# Altium integrated library rodgel.IntLib: 579 symbols (part 2 of 4)
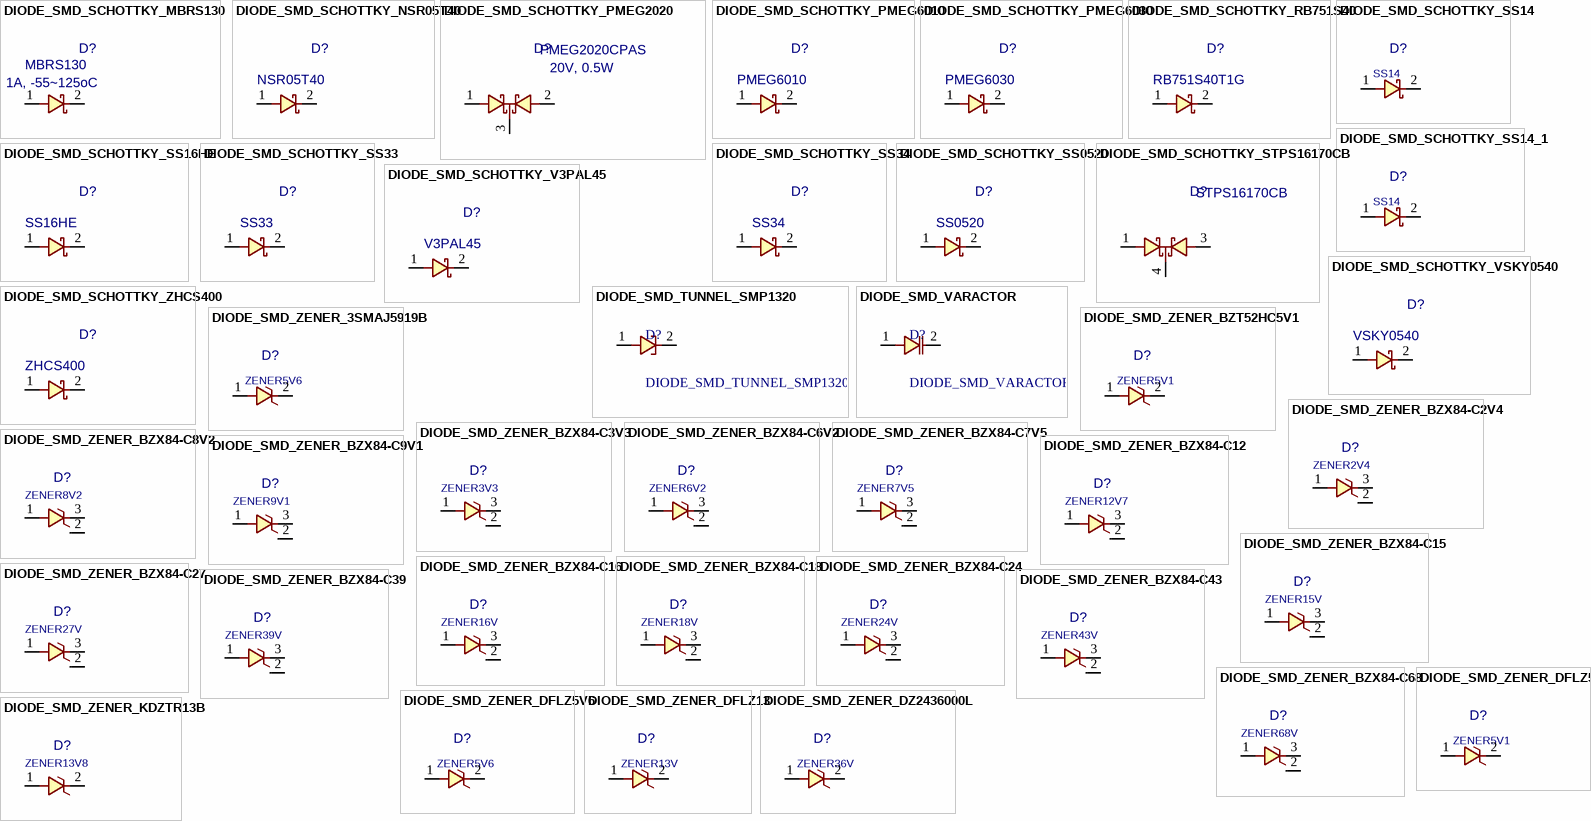
[diagram p18: symbols DIODE_SMD_SCHOTTKY_MBRS130 to DIODE_SMD_ZENER_KDZTR13B]

## DIODE_SMD_SCHOTTKY_ZHCS400
designator D?, comment ZHCS400
DIODE, SCHOTTKY, 40V, 0.4A; MANF: DIODES; MANF_P#: ZHCS400TA; DESC: DESCRIPTION; PARAM2: 0.4A, -55~150oC; ASSEMBLY: ASSEMBLY; PRICE: 0.4$; PARAM: 40V; VALUE: ZHCS400
footprint D_SOD323 (DIODE0805, SOD-323, SC-76, DL-35, 0805 similar size)
pins: 1, 2

## DIODE_SMD_TUNNEL_SMP1320
designator D?
DIODE, SMD, TUNNEL; MANF_P#: SMP1320-079LF; MANF: Skyworks
footprint D_SOD523 (SOD523 SC-79 Molded Diode, 2-Leads, 1.2x0.8mm)
pins: 1, 2

## DIODE_SMD_VARACTOR
designator D?
Variable Capacitance Diode
footprint D0805 (DIODE0805, SOD323 (PHILIPS), SC-76 (JEITA), DL-35)
pins: 1, 2

## DIODE_SMD_ZENER_3SMAJ5919B
designator D?, comment ZENER5V6
DIODE, ZENER, 3W, 5.6V; MANF: MCC; DESC: DESCRIPTION; PARAM2: 0.5W, 2Ohm, 67mA, -55~150oC; MANF_P#: 3SMAJ5919B-TP; ASSEMBLY: ASSEMBLY; PRICE: 0.5$; PARAM: 5.6V; VALUE: ZENER5V6
footprint D_SMA (SMA Molded Diode, 2-Leads, Body 4.3x2.7mm)
pins: 1, 2

## DIODE_SMD_ZENER_BZT52HC5V1
designator D?, comment ZENER5V1
DIODE, ZENER, 1W, 5.1V; MANF: Diodes; DESC: DESCRIPTION; PARAM2: 1W, 4Ohm, -55~150oC; MANF_P#: BZT52HC5V1WF-7; ASSEMBLY: ASSEMBLY; PRICE: 0.25$; PARAM: 5.1V; VALUE: ZENER5V1
footprint D_SOD123W (1206D, SOD123, miniMELF, DO-213AA, MLL34, 320X160D)
pins: 1, 2

## DIODE_SMD_ZENER_BZX84-C2V4
designator D?, comment ZENER2V4
DIODE, ZENER, 0.25W, 2.4V; MANF: NXP; DESC: DESCRIPTION; PARAM2: 2.4V, 0.9VF; PARAM: 0.25W, 10mA IF; MANF_P#: BZX84-C2V4; ASSEMBLY: ASSEMBLY; PRICE: PRICE; VALUE: ZENER2V4
footprint SOT23_3 (SOT-23, Micro3, MO-178, TO-236AB, MO-193C, SuperSOT3, SC-59, 1.9mm pitch 3X1.5mm body)
pins: 1, 2, 3

## DIODE_SMD_ZENER_BZX84-C3V3
designator D?, comment ZENER3V3
DIODE, ZENER, 0.25W, 3.3V; MANF: NXP; DESC: DESCRIPTION; PARAM2: 3.3V, 0.9VF; PARAM: 0.25W, 10mA IF; MANF_P#: BZX84-C3V3; ASSEMBLY: ASSEMBLY; PRICE: PRICE; VALUE: ZENER3V3
footprint SOT23_3 (SOT-23, Micro3, MO-178, TO-236AB, MO-193C, SuperSOT3, SC-59, 1.9mm pitch 3X1.5mm body)
pins: 1, 2, 3

## DIODE_SMD_ZENER_BZX84-C6V2
designator D?, comment ZENER6V2
DIODE, ZENER, 0.25W, 6.2V; MANF: NXP; DESC: DESCRIPTION; PARAM2: 6.2V, 0.9VF; PARAM: 0.25W, 10mA IF; MANF_P#: BZX84-C6V2; ASSEMBLY: ASSEMBLY; PRICE: PRICE; VALUE: ZENER6V2
footprint SOT23_3 (SOT-23, Micro3, MO-178, TO-236AB, MO-193C, SuperSOT3, SC-59, 1.9mm pitch 3X1.5mm body)
pins: 1, 2, 3

## DIODE_SMD_ZENER_BZX84-C7V5
designator D?, comment ZENER7V5
DIODE, ZENER, 0.25W, 7.5V; MANF: NXP; DESC: DESCRIPTION; PARAM2: 7.5V, 0.9VF; PARAM: 0.25W, 10mA IF; MANF_P#: BZX84-C7V5; ASSEMBLY: ASSEMBLY; PRICE: PRICE; VALUE: ZENER7V5
footprint SOT23_3 (SOT-23, Micro3, MO-178, TO-236AB, MO-193C, SuperSOT3, SC-59, 1.9mm pitch 3X1.5mm body)
pins: 1, 2, 3

## DIODE_SMD_ZENER_BZX84-C8V2
designator D?, comment ZENER8V2
DIODE, ZENER, 0.25W, 8.2V; MANF: NXP; DESC: DESCRIPTION; PARAM2: 8.2V, 0.9VF; PARAM: 0.25W, 10mA IF; MANF_P#: BZX84-C8V2; ASSEMBLY: ASSEMBLY; PRICE: PRICE; VALUE: ZENER8V2
footprint SOT23_3 (SOT-23, Micro3, MO-178, TO-236AB, MO-193C, SuperSOT3, SC-59, 1.9mm pitch 3X1.5mm body)
pins: 1, 2, 3

## DIODE_SMD_ZENER_BZX84-C9V1
designator D?, comment ZENER9V1
DIODE, ZENER, 0.25W, 9.1V; MANF: NXP; DESC: DESCRIPTION; PARAM2: 9.1V, 0.9VF; PARAM: 0.25W, 10mA IF; MANF_P#: BZX84-C9V1; ASSEMBLY: ASSEMBLY; PRICE: PRICE; VALUE: ZENER9V1
footprint SOT23_3 (SOT-23, Micro3, MO-178, TO-236AB, MO-193C, SuperSOT3, SC-59, 1.9mm pitch 3X1.5mm body)
pins: 1, 2, 3

## DIODE_SMD_ZENER_BZX84-C12
designator D?, comment ZENER12V7
DIODE, ZENER, 0.25W, 12.7V; MANF: NXP; DESC: DESCRIPTION; PARAM2: 12.7V, 0.9VF; PARAM: 0.25W, 10mA IF; MANF_P#: BZX84-C12; ASSEMBLY: ASSEMBLY; PRICE: PRICE; VALUE: ZENER12V7
footprint SOT23_3 (SOT-23, Micro3, MO-178, TO-236AB, MO-193C, SuperSOT3, SC-59, 1.9mm pitch 3X1.5mm body)
pins: 1, 2, 3

## DIODE_SMD_ZENER_BZX84-C15
designator D?, comment ZENER15V
DIODE, ZENER, 0.25W, 15V; MANF: NXP; DESC: DESCRIPTION; PARAM2: 15V, 0.9VF; PARAM: 0.25W, 10mA IF; MANF_P#: BZX84-C15; ASSEMBLY: ASSEMBLY; PRICE: PRICE; VALUE: ZENER15V
footprint SOT23_3 (SOT-23, Micro3, MO-178, TO-236AB, MO-193C, SuperSOT3, SC-59, 1.9mm pitch 3X1.5mm body)
pins: 1, 2, 3

## DIODE_SMD_ZENER_BZX84-C16
designator D?, comment ZENER16V
DIODE, ZENER, 0.25W, 16V; MANF: NXP; DESC: DESCRIPTION; PARAM2: 16V, 0.9VF; PARAM: 0.25W, 10mA IF; MANF_P#: BZX84-C16; ASSEMBLY: ASSEMBLY; PRICE: PRICE; VALUE: ZENER16V
footprint SOT23_3 (SOT-23, Micro3, MO-178, TO-236AB, MO-193C, SuperSOT3, SC-59, 1.9mm pitch 3X1.5mm body)
pins: 1, 2, 3

## DIODE_SMD_ZENER_BZX84-C18
designator D?, comment ZENER18V
DIODE, ZENER, 0.25W, 18V; MANF: NXP; DESC: DESCRIPTION; PARAM2: 18V, 0.9VF; PARAM: 0.25W, 10mA IF; MANF_P#: BZX84-C18; ASSEMBLY: ASSEMBLY; PRICE: PRICE; VALUE: ZENER18V
footprint SOT23_3 (SOT-23, Micro3, MO-178, TO-236AB, MO-193C, SuperSOT3, SC-59, 1.9mm pitch 3X1.5mm body)
pins: 1, 2, 3

## DIODE_SMD_ZENER_BZX84-C24
designator D?, comment ZENER24V
DIODE, ZENER, 0.25W, 24V; MANF: NXP; DESC: DESCRIPTION; PARAM2: 24V, 0.9VF; PARAM: 0.25W, 10mA IF; MANF_P#: BZX84-C24; ASSEMBLY: ASSEMBLY; PRICE: PRICE; VALUE: ZENER24V
footprint SOT23_3 (SOT-23, Micro3, MO-178, TO-236AB, MO-193C, SuperSOT3, SC-59, 1.9mm pitch 3X1.5mm body)
pins: 1, 2, 3

## DIODE_SMD_ZENER_BZX84-C27
designator D?, comment ZENER27V
DIODE, ZENER, 0.25W, 27V; MANF: NXP; DESC: DESCRIPTION; PARAM2: 27V, 0.9VF; PARAM: 0.25W, 10mA IF; MANF_P#: BZX84-C27; ASSEMBLY: ASSEMBLY; PRICE: PRICE; VALUE: ZENER27V
footprint SOT23_3 (SOT-23, Micro3, MO-178, TO-236AB, MO-193C, SuperSOT3, SC-59, 1.9mm pitch 3X1.5mm body)
pins: 1, 2, 3

## DIODE_SMD_ZENER_BZX84-C39
designator D?, comment ZENER39V
DIODE, ZENER, 0.25W, 39V; MANF: NXP; DESC: DESCRIPTION; PARAM2: 39V, 0.9VF; PARAM: 0.25W, 10mA IF; MANF_P#: BZX84-C39; ASSEMBLY: ASSEMBLY; PRICE: PRICE; VALUE: ZENER39V
footprint SOT23_3 (SOT-23, Micro3, MO-178, TO-236AB, MO-193C, SuperSOT3, SC-59, 1.9mm pitch 3X1.5mm body)
pins: 1, 2, 3

## DIODE_SMD_ZENER_BZX84-C43
designator D?, comment ZENER43V
DIODE, ZENER, 0.25W, 43V; MANF: NXP; DESC: DESCRIPTION; PARAM2: 43V, 0.9VF; PARAM: 0.25W, 10mA IF; MANF_P#: BZX84-C43; ASSEMBLY: ASSEMBLY; PRICE: PRICE; VALUE: ZENER43V
footprint SOT23_3 (SOT-23, Micro3, MO-178, TO-236AB, MO-193C, SuperSOT3, SC-59, 1.9mm pitch 3X1.5mm body)
pins: 1, 2, 3

## DIODE_SMD_ZENER_BZX84-C68
designator D?, comment ZENER68V
DIODE, ZENER, 0.25W, 68V; MANF: NXP; DESC: DESCRIPTION; PARAM2: 68V, 0.9VF; PARAM: 0.25W, 10mA IF; MANF_P#: BZX84-C68; ASSEMBLY: ASSEMBLY; PRICE: PRICE; VALUE: ZENER68V
footprint SOT23_3 (SOT-23, Micro3, MO-178, TO-236AB, MO-193C, SuperSOT3, SC-59, 1.9mm pitch 3X1.5mm body)
pins: 1, 2, 3

## DIODE_SMD_ZENER_DFLZ5V1
designator D?, comment ZENER5V1
DIODE, ZENER, 1W, 5.1V; MANF: Diodes; DESC: DESCRIPTION; PARAM2: 1W, 4Ohm, -55~150oC; MANF_P#: DFLZ5V1-7; ASSEMBLY: ASSEMBLY; PRICE: 0.5$; PARAM: 5.1V; VALUE: ZENER5V1
footprint D_SOD123W (1206D, SOD123, miniMELF, DO-213AA, MLL34, 320X160D)
pins: 1, 2

## DIODE_SMD_ZENER_DFLZ5V6
designator D?, comment ZENER5V6
DIODE, ZENER, 1W, 5.1V; MANF: Diodes; DESC: DESCRIPTION; PARAM2: 1W, 4Ohm, -55~150oC; PARAM: 5.6V; MANF_P#: DFLZ5V6-7; ASSEMBLY: ASSEMBLY; PRICE: 0.5$; VALUE: ZENER5V6
footprint D_SOD123W (1206D, SOD123, miniMELF, DO-213AA, MLL34, 320X160D)
pins: 1, 2

## DIODE_SMD_ZENER_DFLZ13
designator D?, comment ZENER13V
DIODE, ZENER, 1W, 13V; MANF: Diodes; DESC: DESCRIPTION; PARAM2: 1W, 10Ohm, -55~150oC; MANF_P#: DFLZ13-7, DFLZ13Q-7; ASSEMBLY: ASSEMBLY; PRICE: 0.5$; PARAM: 13V; VALUE: ZENER13V
footprint D_SOD123W (1206D, SOD123, miniMELF, DO-213AA, MLL34, 320X160D)
pins: 1, 2

## DIODE_SMD_ZENER_DZ2436000L
designator D?, comment ZENER36V
DIODE, ZENER, 2W, 36V; MANF: Panasonic; DESC: DESCRIPTION; PARAM: 2W, 38Ohm, -50~150°C; MANF_P#: DZ2436000L; ASSEMBLY: ASSEMBLY; PRICE: 0.6$; PARAM2: 36V; VALUE: ZENER36V
footprint D_SMA (SMA Molded Diode, 2-Leads, Body 4.3x2.7mm)
pins: 1, 2

## DIODE_SMD_ZENER_KDZTR13B
designator D?  value ZENER13V8  (hidden comment: DIODE_SMD_ZENER_KDZTR13B)
DIODE, ZENER, 1W, 13.8V; MANF: ROHM; DESC: DESCRIPTION; PARAM2: 1W; ASSEMBLY: ASSEMBLY; PRICE: PRICE; PARAM: 13.8V
footprint D1206 (SOD123, miniMELF, DO-213AA, MLL34, 320X160D)
pins: 1, 2

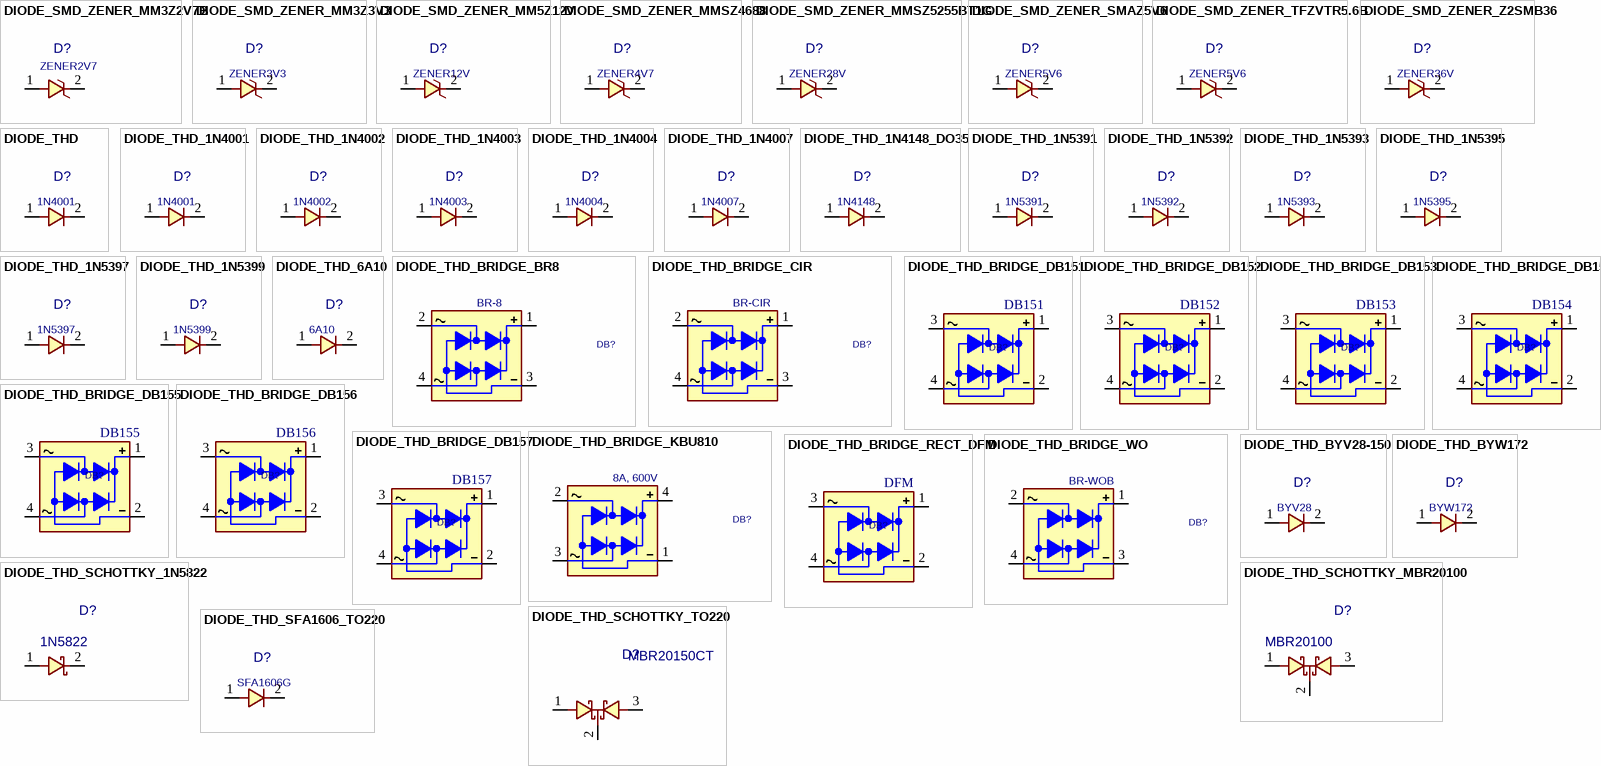
[diagram p5: symbols DIODE_SMD_ZENER_MM3Z2V7B to DIODE_THD_SFA1606_TO220]

## DIODE_SMD_ZENER_MM3Z2V7B
designator D?  value ZENER2V7  (hidden comment: DIODE_SMD_ZENER_MM3Z2V7B)
DIODE, ZENER, 0.2W, 2.7V; MANF: Fairchild; DESC: DESCRIPTION; PRICE: 0.036; MANF_P#: MM3Z2V7B; ASSEMBLY: ASSEMBLY; PARAM2: 0.2W; PARAM: 2.7V
footprint D0805 (DIODE0805, SOD323 (PHILIPS), SC-76 (JEITA), DL-35)
pins: 1, 2

## DIODE_SMD_ZENER_MM3Z3V3
designator D?, comment ZENER3V3
DIODE, ZENER, 0.2W, 3.3V; MANF: ON Semiconductor; DESC: DESCRIPTION; PARAM: 15V; MANF_P#: MM3Z3V3ST1G; ASSEMBLY: ASSEMBLY; PRICE: PRICE; PARAM2: 0.2W; VALUE: ZENER3V3
footprint D0805 (DIODE0805, SOD323 (PHILIPS), SC-76 (JEITA), DL-35)
pins: 1, 2

## DIODE_SMD_ZENER_MM5Z12V
designator D?, comment ZENER12V
DIODE, ZENER, 0.2W, 12V; MANF: Fairchild; DESC: DESCRIPTION; MANF_P#: MM5Z12V; ASSEMBLY: ASSEMBLY; PRICE: PRICE; PARAM2: 0.2W; PARAM: 12V; VALUE: ZENER12V
footprint D_SOD523 (SOD523 SC-79 Molded Diode, 2-Leads, 1.2x0.8mm)
pins: 1, 2

## DIODE_SMD_ZENER_MMSZ4688
designator D?, comment ZENER4V7
DIODE, ZENER, 0.5W, 4.7V; MANF: Fairchild; DESC: DESCRIPTION; MANF_P#: MMSZ4688; ASSEMBLY: ASSEMBLY; PRICE: PRICE; PARAM2: 0.5W; PARAM: 4.7V; VALUE: ZENER4V7
footprint D_SOD123W (1206D, SOD123, miniMELF, DO-213AA, MLL34, 320X160D)
pins: 1, 2

## DIODE_SMD_ZENER_MMSZ5255BT1G
designator D?, comment ZENER28V
DIODE, ZENER, 0.5W, 28V; MANF: ON Semiconductor; DESC: DESCRIPTION; MANF_P#: MMSZ5255BT1G; ASSEMBLY: ASSEMBLY; PRICE: PRICE; PARAM2: 0.5W; PARAM: 28V; VALUE: ZENER28V
footprint D_SOD123W (1206D, SOD123, miniMELF, DO-213AA, MLL34, 320X160D)
pins: 1, 2

## DIODE_SMD_ZENER_SMAZ5V6
designator D?, comment ZENER5V6
DIODE, ZENER, 1W, 5.6V; MANF: Diodes; DESC: DESCRIPTION; PARAM2: 1W, 2Ohm, -55~150oC; MANF_P#: SMAZ5V6-13-F; ASSEMBLY: ASSEMBLY; PRICE: 0.5$; PARAM: 5.6V; VALUE: ZENER5V6
footprint D_SMA (SMA Molded Diode, 2-Leads, Body 4.3x2.7mm)
pins: 1, 2

## DIODE_SMD_ZENER_TFZVTR5.6B
designator D?, comment ZENER5V6
DIODE, ZENER, 0.5W, 5.6V; MANF: ROHM; DESC: DESCRIPTION; PARAM2: 0.5W, 13Ohm, 20mA, -55~150oC; MANF_P#: TFZVTR5.6B; ASSEMBLY: ASSEMBLY; PRICE: 0.3$; PARAM: 5.6V; VALUE: ZENER5V6
footprint D0805 (DIODE0805, SOD323 (PHILIPS), SC-76 (JEITA), DL-35)
pins: 1, 2

## DIODE_SMD_ZENER_Z2SMB36
designator D?, comment ZENER36V
DIODE, ZENER, 2W, 36V; MANF: Diotec; DESC: DESCRIPTION; PARAM: 2W, 16Ohm, -50~150°C; MANF_P#: Z2SMB36; ASSEMBLY: ASSEMBLY; PRICE: -; PARAM2: 36V; VALUE: ZENER36V
footprint D_SMB (SMB Molded Diode, 2-Leads, Body 4.3x3.5mm)
pins: 1, 2

## DIODE_THD
designator D?, comment 1N4001
DIODE, THD; DESC: DESCRIPTION; PARAM: 100V; PARAM2: 1A; MANF: MANF; ASSEMBLY: ASSEMBLY; PRICE: PRICE; MANF_P#: 1N4001; VALUE: 1N4001
footprint D_AX04_DO41 (DO-41)
footprint D_AX03_DO35
footprint D_AX06_DO27 (A-500 (Vishay)  DO201A DO-27)
footprint D_AX06_SOD64 (SOD-64)
footprint D_AX07_DO27 (DO-201AD, DO-27)
pins: 1, 2

## DIODE_THD_1N4001
designator D?, comment 1N4001
DIODE, GENERAL PURPOSE, 50V/1A; DESC: DESCRIPTION; PARAM: 50V; PARAM2: 1A; MANF: MANF; ASSEMBLY: ASSEMBLY; PRICE: PRICE; MANF_P#: 1N4001; VALUE: 1N4001
footprint D_AX04_DO41 (DO-41)
pins: 1, 2

## DIODE_THD_1N4002
designator D?, comment 1N4002
DIODE, GENERAL PURPOSE, 100V/1A; DESC: DESCRIPTION; PARAM: 100V; PARAM2: 1A; MANF: MANF; ASSEMBLY: ASSEMBLY; PRICE: PRICE; MANF_P#: 1N4002; VALUE: 1N4002
footprint D_AX04_DO41 (DO-41)
pins: 1, 2

## DIODE_THD_1N4003
designator D?, comment 1N4003
DIODE, GENERAL PURPOSE, 200V/1A; DESC: DESCRIPTION; PARAM: 200V; PARAM2: 1A; MANF: MANF; ASSEMBLY: ASSEMBLY; PRICE: PRICE; MANF_P#: 1N4003; VALUE: 1N4003
footprint D_AX04_DO41 (DO-41)
pins: 1, 2

## DIODE_THD_1N4004
designator D?, comment 1N4004
DIODE, GENERAL PURPOSE, 400V/1A; DESC: DESCRIPTION; PARAM: 400V; PARAM2: 1A; MANF: MANF; ASSEMBLY: ASSEMBLY; PRICE: PRICE; MANF_P#: 1N4004; VALUE: 1N4004
footprint D_AX04_DO41 (DO-41)
pins: 1, 2

## DIODE_THD_1N4007
designator D?, comment 1N4007
DIODE, GENERAL PURPOSE, 1000V/1A; MANF: Diodes; DESC: DESCRIPTION; PARAM: 1000V, 1.15V; PARAM2: 1.5A; ASSEMBLY: ASSEMBLY; PRICE: PRICE; MANF_P#: 1N4007; VALUE: 1N4007
footprint D_AX04_DO41 (DO-41)
footprint D_AX03_1WS (DIODE 0.3 INCH SPACING 1W STAND)
pins: 1, 2

## DIODE_THD_1N4148_DO35
designator D?, comment 1N4148
DIODE, FAST SWTICHING, THD; DESC: DESCRIPTION; PARAM: 75V; PARAM2: 0.3A; MANF: MANF; ASSEMBLY: ASSEMBLY; PRICE: PRICE; MANF_P#: 1N4148; VALUE: 1N4148
footprint D_AX02_DO35 (DIODE 0.2 INCH SPACING DO-35)
pins: 1, 2

## DIODE_THD_1N5391
designator D?, comment 1N5391
DIODE, GENERAL PURPOSE, 50V/1.5A; DESC: DESCRIPTION; PARAM: 50V; PARAM2: 1.5A; MANF: MANF; ASSEMBLY: ASSEMBLY; PRICE: PRICE; MANF_P#: 1N5391; VALUE: 1N5391
footprint D_AX04_DO41 (DO-41)
pins: 1, 2

## DIODE_THD_1N5392
designator D?, comment 1N5392
DIODE, GENERAL PURPOSE, 100V/1.5A; DESC: DESCRIPTION; PARAM: 100V; PARAM2: 1.5A; MANF: MANF; ASSEMBLY: ASSEMBLY; PRICE: PRICE; MANF_P#: 1N5392; VALUE: 1N5392
footprint D_AX04_DO41 (DO-41)
pins: 1, 2

## DIODE_THD_1N5393
designator D?, comment 1N5393
DIODE, GENERAL PURPOSE, 200V/1.5A; DESC: DESCRIPTION; PARAM: 200V; PARAM2: 1.5A; MANF: MANF; ASSEMBLY: ASSEMBLY; PRICE: PRICE; MANF_P#: 1N5393; VALUE: 1N5393
footprint D_AX04_DO41 (DO-41)
pins: 1, 2

## DIODE_THD_1N5395
designator D?, comment 1N5395
DIODE, GENERAL PURPOSE, 400V/1.5A; DESC: DESCRIPTION; PARAM: 400V; PARAM2: 1.5A; MANF: MANF; ASSEMBLY: ASSEMBLY; PRICE: PRICE; MANF_P#: 1N5395; VALUE: 1N5395
footprint D_AX04_DO41 (DO-41)
pins: 1, 2

## DIODE_THD_1N5397
designator D?, comment 1N5397
DIODE, GENERAL PURPOSE, 600V/1.5A; DESC: DESCRIPTION; PARAM: 600V; PARAM2: 1.5A; MANF: MANF; ASSEMBLY: ASSEMBLY; PRICE: PRICE; MANF_P#: 1N5397; VALUE: 1N5397
footprint D_AX04_DO41 (DO-41)
pins: 1, 2

## DIODE_THD_1N5399
designator D?, comment 1N5399
DIODE, GENERAL PURPOSE, 1000V/1.5A; DESC: DESCRIPTION; PARAM: 1000V; PARAM2: 1.5A; MANF: MANF; ASSEMBLY: ASSEMBLY; PRICE: PRICE; MANF_P#: 1N5399; VALUE: 1N5399
footprint D_AX04_DO41 (DO-41)
pins: 1, 2

## DIODE_THD_6A10
designator D?, comment 6A10
DIODE, GENERAL PURPOSE, 1000V/6A; MANF: EIC; DESC: DESCRIPTION; PARAM: 1000V, 1V; PARAM2: 6A; ASSEMBLY: ASSEMBLY; PRICE: PRICE; MANF_P#: 6A10; VALUE: 6A10
footprint D_AX07_P600 (DIODE 0.7 INCH SPACING, P600, 9mm width)
pins: 1, 2

## DIODE_THD_BRIDGE_BR8
designator DB?, comment BR-8
DIODE, BRIDGE, 8A, 600V; VALUE: BR-8
footprint DBRG_S20 (BRIDGE RECTIFIER, pitch: 12.7mm, 20X20mm)
pins: 1 +DC, 2 AC1, 3 -DC, 4 AC2

## DIODE_THD_BRIDGE_CIR
designator DB?, comment BR-CIR
DIODE, BRIDGE,; VALUE: BR-CIR
footprint DBRG_C8 (BRDIGE RECTIFIER, pitch: 4.7mm, 8X8mm)
pins: 1 +DC, 2 AC1, 3 -DC, 4 AC2

## DIODE_THD_BRIDGE_DB151
designator DB?, comment DB151
DIODE, BRIDGE,; MANF: SECOS; PARAM2: 50V; PARAM: 1.5A; MANF_P#: DB151; VALUE: DB151
footprint DBRG_DIP (BRDIGE RECTIFIER, pitch: 5.08mm, 8X5mm)
pins: 1 DCOUT+, 2 DCOUT-, 3 ACIN2, 4 ACIN1

## DIODE_THD_BRIDGE_DB152
designator DB?, comment DB152
DIODE, BRIDGE,; MANF: SECOS; PARAM2: 100V; PARAM: 1.5A; MANF_P#: DB152; VALUE: DB152
footprint DBRG_DIP (BRDIGE RECTIFIER, pitch: 5.08mm, 8X5mm)
pins: 1 DCOUT+, 2 DCOUT-, 3 ACIN2, 4 ACIN1

## DIODE_THD_BRIDGE_DB153
designator DB?, comment DB153
DIODE, BRIDGE,; MANF: SECOS; PARAM2: 200V; PARAM: 1.5A; MANF_P#: DB153; VALUE: DB153
footprint DBRG_DIP (BRDIGE RECTIFIER, pitch: 5.08mm, 8X5mm)
pins: 1 DCOUT+, 2 DCOUT-, 3 ACIN2, 4 ACIN1

## DIODE_THD_BRIDGE_DB154
designator DB?, comment DB154
DIODE, BRIDGE,; MANF: SECOS; PARAM2: 400V; PARAM: 1.5A; MANF_P#: DB154; VALUE: DB154
footprint DBRG_DIP (BRDIGE RECTIFIER, pitch: 5.08mm, 8X5mm)
pins: 1 DCOUT+, 2 DCOUT-, 3 ACIN2, 4 ACIN1

## DIODE_THD_BRIDGE_DB155
designator DB?, comment DB155
DIODE, BRIDGE,; MANF: SECOS; PARAM2: 600V; PARAM: 1.5A; MANF_P#: DB155; VALUE: DB155
footprint DBRG_DIP (BRDIGE RECTIFIER, pitch: 5.08mm, 8X5mm)
pins: 1 DCOUT+, 2 DCOUT-, 3 ACIN2, 4 ACIN1

## DIODE_THD_BRIDGE_DB156
designator DB?, comment DB156
DIODE, BRIDGE,; MANF: SECOS; PARAM2: 800V; PARAM: 1.5A; MANF_P#: DB156; VALUE: DB156
footprint DBRG_DIP (BRDIGE RECTIFIER, pitch: 5.08mm, 8X5mm)
pins: 1 DCOUT+, 2 DCOUT-, 3 ACIN2, 4 ACIN1

## DIODE_THD_BRIDGE_DB157
designator DB?, comment DB157
DIODE, BRIDGE,; MANF: SECOS; PARAM2: 1000V; PARAM: 1.5A; MANF_P#: DB157; VALUE: DB157
footprint DBRG_DIP (BRDIGE RECTIFIER, pitch: 5.08mm, 8X5mm)
pins: 1 DCOUT+, 2 DCOUT-, 3 ACIN2, 4 ACIN1

## DIODE_THD_BRIDGE_KBU810
designator DB?, comment 8A, 600V
DIODE, BRIDGE, 8A, 600V; VALUE: 8A, 600V
footprint DBRG_23X7 (BRDIGE RECTIFIER, KBU 810 pitch: 5.08mm, 23X7X19mm)
pins: 1 -DC, 2 AC1, 3 AC2, 4 +DC

## DIODE_THD_BRIDGE_RECT_DFM
designator DB?, comment DFM
DIODE, BRIDGE,; VALUE: DFM
footprint DBRG_DIP (BRDIGE RECTIFIER, pitch: 5.08mm, 8X5mm)
pins: 1 DCOUT+, 2 DCOUT-, 3 ACIN2, 4 ACIN1

## DIODE_THD_BRIDGE_WO
designator DB?, comment BR-WOB
DIODE, BRIDGE,; VALUE: BR-WOB
footprint DBRG_C10 (BRDIGE RECTIFIER, WOB WOG, pitch: 5.08mm, 10X10mm)
pins: 1 +DC, 2 AC1, 3 -DC, 4 AC2

## DIODE_THD_BYV28-150
designator D?, comment BYV28
DIODE, FAST; MANF: VISHAY; DESC: DESCRIPTION; PARAM: 3.5A, -55~175oC; PARAM2: 150V; MANF_P#: BYV28-150; ASSEMBLY: ASSEMBLY; PRICE: 1.1$; VALUE: BYV28
footprint D_AX06_SOD64 (DIODE 0.6 INCH SPACING SOD-64)
pins: 1, 2

## DIODE_THD_BYW172
designator D?, comment BYW172
DIODE, FAST; MANF: VISHAY; DESC: DESCRIPTION; PARAM: 200V; PARAM2: 3A; ASSEMBLY: ASSEMBLY; PRICE: PRICE; MANF_P#: BYW172; VALUE: BYW172
footprint D_AX06_SOD64 (DIODE 0.6 INCH SPACING SOD-64)
pins: 1, 2

## DIODE_THD_SCHOTTKY_1N5822
designator D?, comment 1N5822
DIODE, SCHOTTKY, 40V, 3A; MANF: Diodes; DESC: DESCRIPTION; MANF_P#: 1N5822; ASSEMBLY: ASSEMBLY; PRICE: PRICE; PARAM2: 3A; PARAM: 40V; VALUE: 1N5822
footprint D_AX06_DO27 (A-500 (Vishay)  DO201A DO-27)
pins: 1 A, 2 K

## DIODE_THD_SCHOTTKY_MBR20100
designator D?, comment MBR20100
DIODE, SCHOTTKY, DUAL, 100V, 20A; MANF: Diodes; DESC: DESCRIPTION; MANF_P#: MBR20100; ASSEMBLY: ASSEMBLY; PRICE: PRICE; PARAM2: 100V; PARAM: 20A; VALUE: MBR20100
footprint TO220_3 (TO-220 3 LEAD, TO-262, pitch: 2.54mm  10x4.5mm)
pins: 1, 2, 3

## DIODE_THD_SCHOTTKY_TO220
designator D?, comment MBR20150CT
DIODE, SCHOTTKY, 2x Common Cathode; MANF: ON; DESC: DESCRIPTION; MANF_P#: -; ASSEMBLY: ASSEMBLY; PRICE: 1$; PARAM2: -; PARAM: -; VALUE: MBR20150CT
footprint TO220_3 (TO-220 3 LEAD, TO-262, pitch: 2.54mm  10x4.5mm)
pins: 1 A1, 2 CATHODE, 3 A3

## DIODE_THD_SFA1606_TO220
designator D?, comment SFA1606G
DIODE, GENERAL PURPOSE, 400V/16A; DESC: DESCRIPTION; PARAM: 16A; PARAM2: 400V; ASSEMBLY: ASSEMBLY; PRICE: PRICE; MANF_P#: SFA1606G; VALUE: SFA1606G
footprint TO220_2
pins: 1, 2

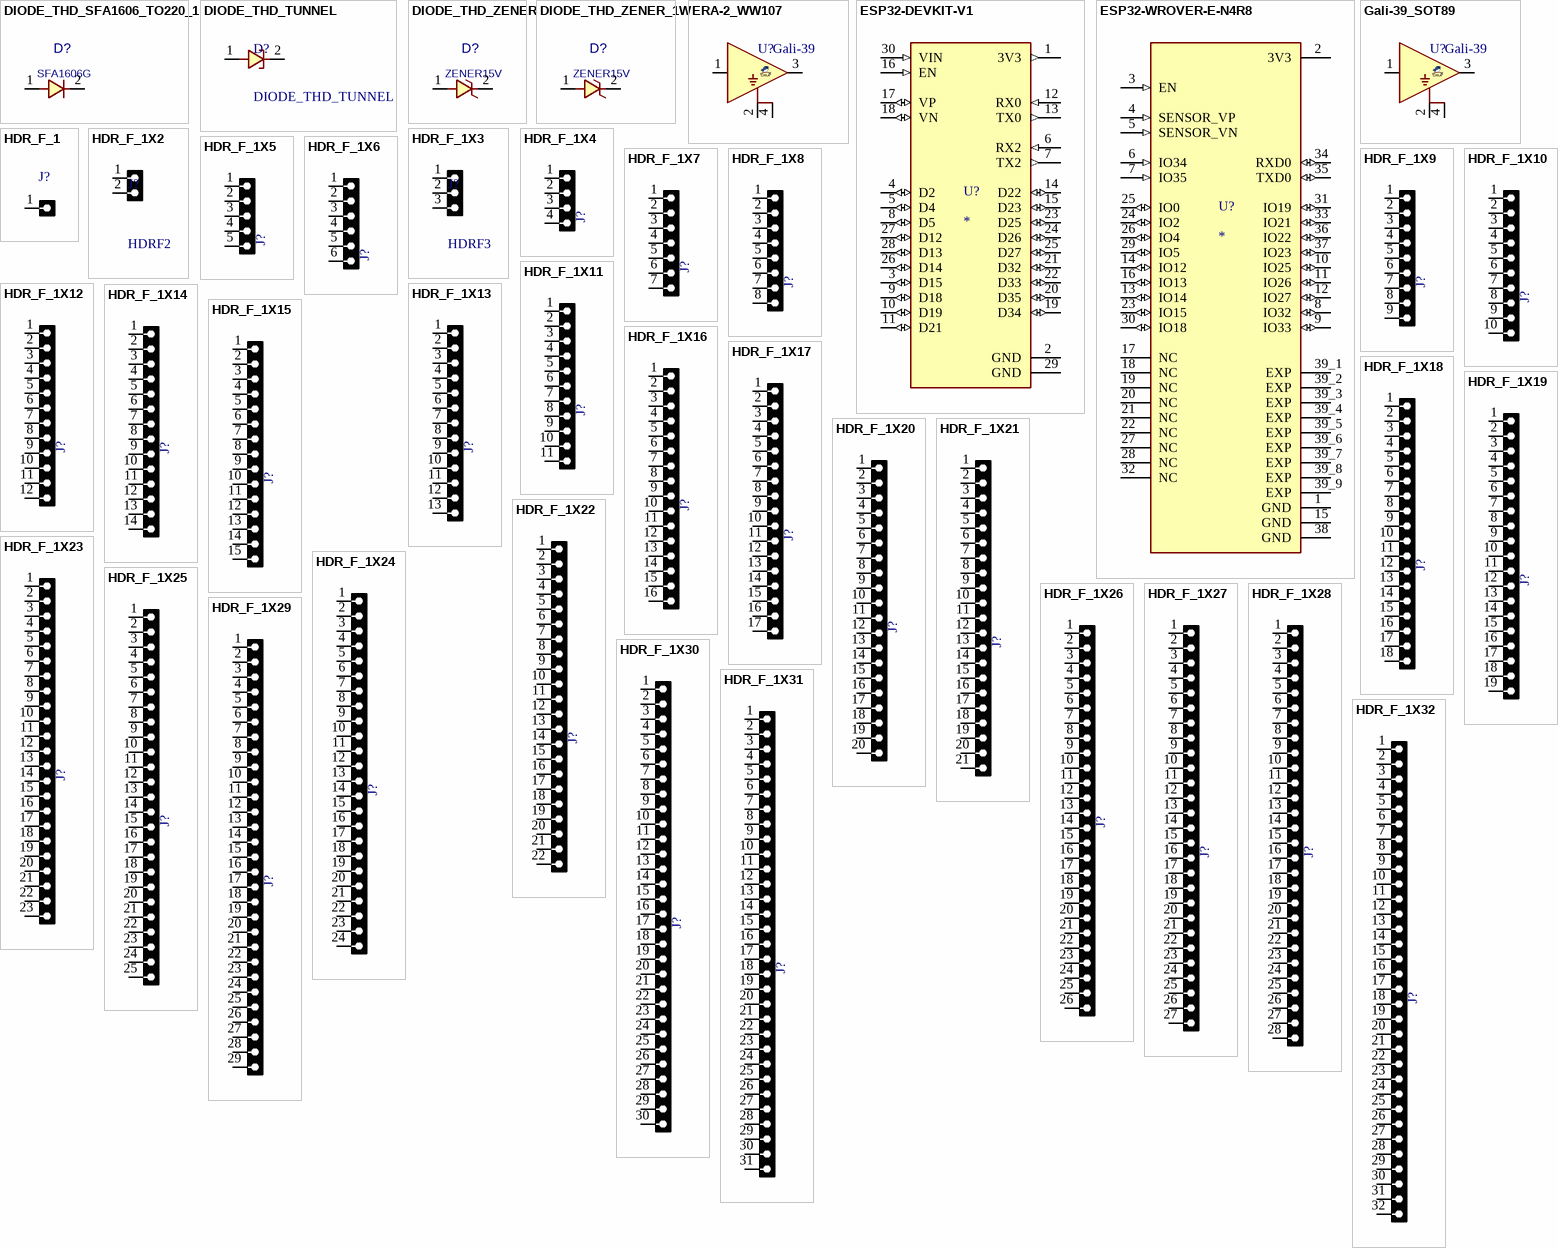
[diagram p6: symbols DIODE_THD_SFA1606_TO220_1 to HDR_F_1X32]

## DIODE_THD_SFA1606_TO220_1
designator D?, comment SFA1606G
DIODE, GENERAL PURPOSE, 400V/16A; DESC: DESCRIPTION; PARAM: 16A; PARAM2: 400V; ASSEMBLY: ASSEMBLY; PRICE: PRICE; MANF_P#: SFA1606G; VALUE: SFA1606G
footprint TO220_2
pins: 1, 2

## DIODE_THD_TUNNEL
designator D?
DIODE, THD, TUNNEL or PIN diode; MANF_P#: BA479G-TR; MANF: Vishay
footprint D_AX03_DO35
pins: 1, 2

## DIODE_THD_ZENER
designator D?, comment ZENER15V
DIODE, ZENER, 0.2W, 15V; MANF: Diodes; DESC: DESCRIPTION; ASSEMBLY: ASSEMBLY; PRICE: PRICE; PARAM2: 0.2W; PARAM: 15V; MANF_P#: ZENER15V; VALUE: ZENER15V
footprint D_AX04_DO41 (DO-41)
footprint D_AX02_DO35 (DIODE 0.2 INCH SPACING DO-35)
footprint D_AX03_DO35
pins: 1, 2

## DIODE_THD_ZENER_1W
designator D?, comment ZENER15V
DIODE, ZENER, 1W; MANF: Diodes; DESC: DESCRIPTION; PARAM2: 0.2W; PARAM: 15V; ASSEMBLY: ASSEMBLY; PRICE: PRICE; MANF_P#: ZENER15V; VALUE: ZENER15V
footprint D_AX03_1W (DIODE 0.3 INCH SPACING 1W)
pins: 1, 2

## ERA-2_WW107
designator U?, comment Gali-39
AMP, RF, Monolithic, DC-6GHz; MANF: Mini-Circuits; MANF_P#: ERA-2+; PARAM2: +7~20V; VALUE: Gali-39
footprint RDB_4_2X2 (ERA, AF320/WW107/AF190/PAT (MINI-CIRCUITS), MSA-0986)
pins: 1 RFIN, 2 G, 3 RFOUT, 4 GND

## ESP32-DEVKIT-V1
designator U?
Dual core, Wi-Fi: 2.4 GHz up to 150 Mbits/s,BLE (Bluetooth Low Energy) and legacy Bluetooth, 32 bits, Up to 240 MHz; MP: ESP32-DEVKIT-V1; Value: *; Availability: Unavailable; Package: None; Price: None
footprint MODULE_ESP32_DEVKIT_V1
pins: 1 3V3 (out), 2 GND (power), 3 D15 (io), 4 D2 (io), 5 D4 (io), 6 RX2 (in), 7 TX2 (out), 8 D5 (io), 9 D18 (io), 10 D19 (io), 11 D21 (io), 12 RX0 (in), 13 TX0 (out), 14 D22 (io), 15 D23 (io), 16 EN (in), 17 VP (io), 18 VN (io), 19 D34 (io), 20 D35 (io), 21 D32 (io), 22 D33 (io), 23 D25 (io), 24 D26 (io), 25 D27 (io), 26 D14 (io), 27 D12 (io), 28 D13 (io), 29 GND (power), 30 VIN (in)

## ESP32-WROVER-E-N4R8
designator U?
Bluetooth, WiFi 802.11b/g/n, Bluetooth v4.2 +EDR Transceiver Module 2.4GHz ~ 2.5GHz PCB Trace Surface Mount; MF: Espressif Systems; MP: ESP32WROVEREN4R8; SnapEDA_Link: https://www.snapeda.com/parts/ESP32WROVEREN4R8/Espressif+Systems/view-part/?ref=snap; Price: None; Check_prices: https://www.snapeda.com/parts/ESP32WROVEREN4R8/Espressif+Systems/view-part/?ref=eda; Value: *; Package: None; Availability: In Stock; Purchase-URL: https://pricing.snapeda.com/search/part/ESP32WROVEREN4R8/?ref=eda
footprint XCVR_ESP32-WROVER-E-N4R8
pins: 1 GND (power), 2 3V3 (power), 3 EN (in), 4 SENSOR_VP (in), 5 SENSOR_VN (in), 6 IO34 (in), 7 IO35 (in), 8 IO32 (io), 9 IO33 (io), 10 IO25 (io), 11 IO26 (io), 12 IO27 (io), 13 IO14 (io), 14 IO12 (io), 15 GND (power), 16 IO13 (io), 17 NC, 18 NC, 19 NC, 20 NC, 21 NC, 22 NC, 23 IO15 (io), 24 IO2 (io), 25 IO0 (io), 26 IO4 (io), 27 NC, 28 NC, 29 IO5 (io), 30 IO18 (io), 31 IO19 (io), 32 NC, 33 IO21 (io), 34 RXD0 (io), 35 TXD0 (io), 36 IO22 (io), 37 IO23 (io), 38 GND (power), 39_1 EXP (power), 39_2 EXP (power), 39_3 EXP (power), 39_4 EXP (power), 39_5 EXP (power), 39_6 EXP (power), 39_7 EXP (power), 39_8 EXP (power), 39_9 EXP (power)

## Gali-39_SOT89
designator U?, comment Gali-39
AMP, RF, Monolithic, DC-7 GHz; MANF: Mini-Circuits; MANF_P#: Gali-39+; PARAM2: +7~20V; VALUE: Gali-39
footprint SOT89_3 (SOT89, SOT-89, SBF-4089, SOT89A, GALI, SC-62, DF782, TO-243AA(JEDEC))
pins: 1 IN, 2 G, 3 OUT, 4 GND

## HDR_F_1
designator J?, comment HDRF1  (value not drawn)
CONN, HEADER, Female, pitch: 2.54mm, 1POS; VALUE: HDRF1
footprint HDR_F_1 (Connector; Header; 1 Position)
pins: 1

## HDR_F_1X2
designator J?, comment HDRF2
CONN, HEADER, Female, pitch: 2.54mm, 2POS; VALUE: HDRF2
footprint HDR_F_1X2 (HEADER FEMALE pitch: 2.54mm)
pins: 1, 2

## HDR_F_1X3
designator J?, comment HDRF3
CONN, HEADER, Female, pitch: 2.54mm, 3POS; VALUE: HDRF3
footprint HDR_F_1X3 (HEADER FEMALE pitch: 2.54mm)
pins: 1, 2, 3

## HDR_F_1X4
designator J?, comment HDRF4  (value not drawn)
CONN, HEADER, Female, pitch: 2.54mm, 4POS; VALUE: HDRF4
footprint HDR_F_1X4 (HEADER FEMALE pitch: 2.54mm)
pins: 1, 2, 3, 4

## HDR_F_1X5
designator J?, comment HDRF5  (value not drawn)
CONN, HEADER, Female, pitch: 2.54mm, 5POS; VALUE: HDRF5
footprint HDR_F_1X5 (HEADER FEMALE pitch: 2.54mm)
pins: 1, 2, 3, 4, 5

## HDR_F_1X6
designator J?, comment HDRF6  (value not drawn)
CONN, HEADER, Female, pitch: 2.54mm, 6POS; VALUE: HDRF6
footprint HDR_F_1X6 (HEADER FEMALE pitch: 2.54mm)
pins: 1, 2, 3, 4, 5, 6

## HDR_F_1X7
designator J?, comment HDRF7  (value not drawn)
CONN, HEADER, Female, pitch: 2.54mm, 7POS; VALUE: HDRF7
footprint HDR_F_1X7 (HEADER FEMALE pitch: 2.54mm)
pins: 1, 2, 3, 4, 5, 6, 7

## HDR_F_1X8
designator J?, comment HDRF8  (value not drawn)
CONN, HEADER, Female, pitch: 2.54mm, 8POS; VALUE: HDRF8
footprint HDR_F_1X8 (HEADER FEMALE pitch: 2.54mm)
pins: 1, 2, 3, 4, 5, 6, 7, 8

## HDR_F_1X9
designator J?, comment HDRF9  (value not drawn)
CONN, HEADER, Female, pitch: 2.54mm, 9POS; VALUE: HDRF9
footprint HDR_F_1X9 (HEADER FEMALE pitch: 2.54mm)
pins: 1, 2, 3, 4, 5, 6, 7, 8, 9

## HDR_F_1X10
designator J?, comment HDRF10  (value not drawn)
CONN, HEADER, Female, pitch: 2.54mm, 10POS; VALUE: HDRF10
footprint HDR_F_1X10 (HEADER FEMALE pitch: 2.54mm)
pins: 1, 2, 3, 4, 5, 6, 7, 8, 9, 10

## HDR_F_1X11
designator J?, comment HDRF11  (value not drawn)
CONN, HEADER, Female, pitch: 2.54mm, 11POS; VALUE: HDRF11
footprint HDR_F_1X11 (Connector; Header; 11 Position)
pins: 1, 2, 3, 4, 5, 6, 7, 8, 9, 10, 11

## HDR_F_1X12
designator J?, comment HDRF12  (value not drawn)
CONN, HEADER, Female, pitch: 2.54mm, 12POS; VALUE: HDRF12
footprint HDR_F_1X12 (Connector; Header; 12 Position)
pins: 1, 2, 3, 4, 5, 6, 7, 8, 9, 10, 11, 12

## HDR_F_1X13
designator J?, comment HDRF13  (value not drawn)
CONN, HEADER, Female, pitch: 2.54mm, 13POS; VALUE: HDRF13
footprint HDR_F_1X13 (Connector; Header; 13 Position)
pins: 1, 2, 3, 4, 5, 6, 7, 8, 9, 10, 11, 12, 13

## HDR_F_1X14
designator J?, comment HDRF14  (value not drawn)
CONN, HEADER, Female, pitch: 2.54mm, 14POS; VALUE: HDRF14
footprint HDR_F_1X14 (Connector; Header; 14 Position)
pins: 1, 2, 3, 4, 5, 6, 7, 8, 9, 10, 11, 12, 13, 14

## HDR_F_1X15
designator J?, comment HDRF15  (value not drawn)
CONN, HEADER, Female, pitch: 2.54mm, 15POS; VALUE: HDRF15
footprint HDR_F_1X15 (Connector; Header; 15 Position)
pins: 1, 2, 3, 4, 5, 6, 7, 8, 9, 10, 11, 12, 13, 14, 15

## HDR_F_1X16
designator J?, comment HDRF16  (value not drawn)
CONN, HEADER, Female, pitch: 2.54mm, 16POS; VALUE: HDRF16
footprint HDR_F_1X16 (Connector; Header; 16 Position)
pins: 1, 2, 3, 4, 5, 6, 7, 8, 9, 10, 11, 12, 13, 14, 15, 16

## HDR_F_1X17
designator J?, comment HDRF17  (value not drawn)
CONN, HEADER, Female, pitch: 2.54mm, 17POS; VALUE: HDRF17
footprint HDR_F_1X17 (Connector; Header; 17 Position)
pins: 1, 2, 3, 4, 5, 6, 7, 8, 9, 10, 11, 12, 13, 14, 15, 16, 17

## HDR_F_1X18
designator J?, comment HDRF18  (value not drawn)
CONN, HEADER, Female, pitch: 2.54mm, 18POS; VALUE: HDRF18
footprint HDR_F_1X18 (Connector; Header; 18 Position)
pins: 1, 2, 3, 4, 5, 6, 7, 8, 9, 10, 11, 12, 13, 14, 15, 16, 17, 18

## HDR_F_1X19
designator J?, comment HDRF19  (value not drawn)
CONN, HEADER, Female, pitch: 2.54mm, 19POS; VALUE: HDRF19
footprint HDR_F_1X19 (Connector; Header; 19 Position)
pins: 1, 2, 3, 4, 5, 6, 7, 8, 9, 10, 11, 12, 13, 14, 15, 16, 17, 18, 19

## HDR_F_1X20
designator J?, comment HDRF20  (value not drawn)
CONN, HEADER, Female, pitch: 2.54mm, 20POS; VALUE: HDRF20
footprint HDR_F_1X20 (Connector; Header; 20 Position)
pins: 1, 2, 3, 4, 5, 6, 7, 8, 9, 10, 11, 12, 13, 14, 15, 16, 17, 18, 19, 20

## HDR_F_1X21
designator J?, comment HDRF21  (value not drawn)
CONN, HEADER, Female, pitch: 2.54mm, 21POS; VALUE: HDRF21
footprint HDR_F_1X21 (Connector; Header; 21 Position)
pins: 1, 2, 3, 4, 5, 6, 7, 8, 9, 10, 11, 12, 13, 14, 15, 16, 17, 18, 19, 20, 21

## HDR_F_1X22
designator J?, comment HDRF22  (value not drawn)
CONN, HEADER, Female, pitch: 2.54mm, 22POS; VALUE: HDRF22
footprint HDR_F_1X22 (Connector; Header; 22 Position)
pins: 1, 2, 3, 4, 5, 6, 7, 8, 9, 10, 11, 12, 13, 14, 15, 16, 17, 18, 19, 20, 21, 22

## HDR_F_1X23
designator J?, comment HDRF23  (value not drawn)
CONN, HEADER, Female, pitch: 2.54mm, 23POS; VALUE: HDRF23
footprint HDR_F_1X23 (Connector; Header; 23 Position)
pins: 1, 2, 3, 4, 5, 6, 7, 8, 9, 10, 11, 12, 13, 14, 15, 16, 17, 18, 19, 20, 21, 22, 23

## HDR_F_1X24
designator J?, comment HDRF24  (value not drawn)
CONN, HEADER, Female, pitch: 2.54mm, 24POS; VALUE: HDRF24
footprint HDR_F_1X24 (Connector; Header; 24 Position)
pins: 1, 2, 3, 4, 5, 6, 7, 8, 9, 10, 11, 12, 13, 14, 15, 16, 17, 18, 19, 20, 21, 22, 23, 24

## HDR_F_1X25
designator J?, comment HDRF25  (value not drawn)
CONN, HEADER, Female, pitch: 2.54mm, 25POS; VALUE: HDRF25
footprint HDR_F_1X25 (Connector; Header; 25 Position)
pins: 1, 2, 3, 4, 5, 6, 7, 8, 9, 10, 11, 12, 13, 14, 15, 16, 17, 18, 19, 20, 21, 22, 23, 24, 25

## HDR_F_1X26
designator J?, comment HDRF26  (value not drawn)
CONN, HEADER, Male, pitch: 2.54mm, 26POS; VALUE: HDRF26
footprint HDR_F_1X26 (Connector; Header; 26 Position)
pins: 1, 2, 3, 4, 5, 6, 7, 8, 9, 10, 11, 12, 13, 14, 15, 16, 17, 18, 19, 20, 21, 22, 23, 24, 25, 26

## HDR_F_1X27
designator J?, comment HDRF27  (value not drawn)
CONN, HEADER, Male, pitch: 2.54mm, 27POS; VALUE: HDRF27
footprint HDR_F_1X27 (Connector; Header; 27 Position)
pins: 1, 2, 3, 4, 5, 6, 7, 8, 9, 10, 11, 12, 13, 14, 15, 16, 17, 18, 19, 20, 21, 22, 23, 24, 25, 26, 27

## HDR_F_1X28
designator J?, comment HDRF28  (value not drawn)
CONN, HEADER, Male, pitch: 2.54mm, 28POS; VALUE: HDRF28
footprint HDR_F_1X28 (Connector; Header; 28 Position)
pins: 1, 2, 3, 4, 5, 6, 7, 8, 9, 10, 11, 12, 13, 14, 15, 16, 17, 18, 19, 20, 21, 22, 23, 24, 25, 26, 27, 28

## HDR_F_1X29
designator J?, comment HDRF29  (value not drawn)
CONN, HEADER, Male, pitch: 2.54mm, 29POS; VALUE: HDRF29
footprint HDR_F_1X29 (Connector; Header; 29 Position)
pins: 1, 2, 3, 4, 5, 6, 7, 8, 9, 10, 11, 12, 13, 14, 15, 16, 17, 18, 19, 20, 21, 22, 23, 24, 25, 26, 27, 28, 29

## HDR_F_1X30
designator J?, comment HDRF30  (value not drawn)
CONN, HEADER, Female, pitch: 2.54mm, 30POS; VALUE: HDRF30
footprint HDR_F_1X30 (Connector; Header; 30 Position)
pins: 1, 2, 3, 4, 5, 6, 7, 8, 9, 10, 11, 12, 13, 14, 15, 16, 17, 18, 19, 20, 21, 22, 23, 24, 25, 26, 27, 28, 29, 30

## HDR_F_1X31
designator J?, comment HDRF31  (value not drawn)
CONN, HEADER, Female, pitch: 2.54mm, 31POS; VALUE: HDRF31
footprint HDR_F_1X31 (Connector; Header; 31 Position)
pins: 1, 2, 3, 4, 5, 6, 7, 8, 9, 10, 11, 12, 13, 14, 15, 16, 17, 18, 19, 20, 21, 22, 23, 24, 25, 26, 27, 28, 29, 30, 31

## HDR_F_1X32
designator J?, comment HDRF32  (value not drawn)
CONN, HEADER, Female, pitch: 2.54mm, 32POS; VALUE: HDRF32
footprint HDR_F_1X32 (Connector; Header; 32 Position)
pins: 1, 2, 3, 4, 5, 6, 7, 8, 9, 10, 11, 12, 13, 14, 15, 16, 17, 18, 19, 20, 21, 22, 23, 24, 25, 26, 27, 28, 29, 30, 31, 32

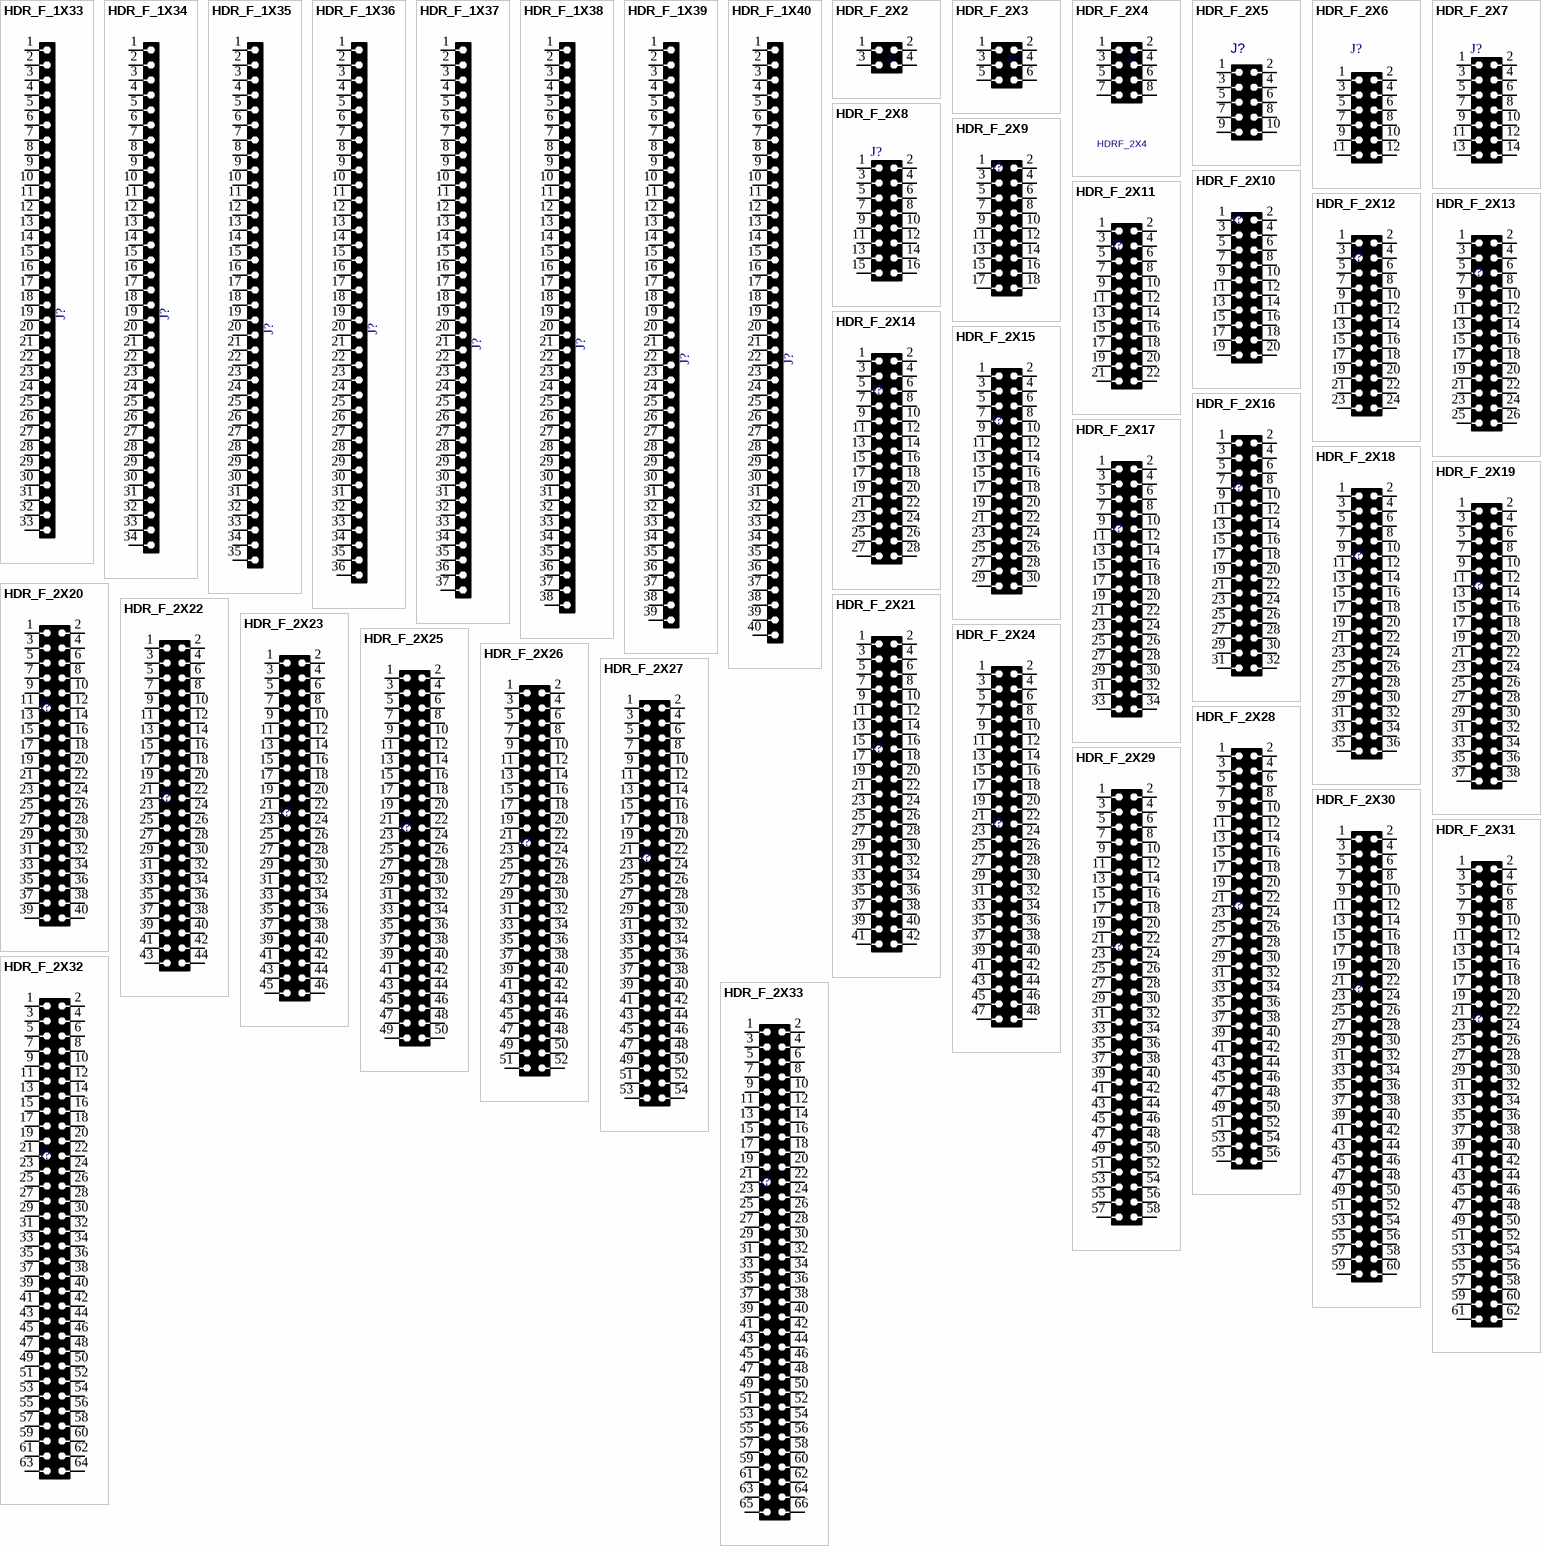
[diagram p7: symbols HDR_F_1X33 to HDR_F_2X33]

## HDR_F_1X33
designator J?, comment HDRF33  (value not drawn)
CONN, HEADER, Female, pitch: 2.54mm, 33POS; VALUE: HDRF33
footprint HDR_F_1X33 (Connector; Header; 33 Position)
pins: 1, 2, 3, 4, 5, 6, 7, 8, 9, 10, 11, 12, 13, 14, 15, 16, 17, 18, 19, 20, 21, 22, 23, 24, 25, 26, 27, 28, 29, 30, 31, 32, 33

## HDR_F_1X34
designator J?, comment HDRF34  (value not drawn)
CONN, HEADER, Female, pitch: 2.54mm, 34POS; VALUE: HDRF34
footprint HDR_F_1X34 (Connector; Header; 34 Position)
pins: 1, 2, 3, 4, 5, 6, 7, 8, 9, 10, 11, 12, 13, 14, 15, 16, 17, 18, 19, 20, 21, 22, 23, 24, 25, 26, 27, 28, 29, 30, 31, 32, 33, 34

## HDR_F_1X35
designator J?, comment HDRF35  (value not drawn)
CONN, HEADER, Female, pitch: 2.54mm, 35POS; VALUE: HDRF35
footprint HDR_F_1X35 (Connector; Header; 35 Position)
pins: 1, 2, 3, 4, 5, 6, 7, 8, 9, 10, 11, 12, 13, 14, 15, 16, 17, 18, 19, 20, 21, 22, 23, 24, 25, 26, 27, 28, 29, 30, 31, 32, 33, 34, 35

## HDR_F_1X36
designator J?, comment HDRF36  (value not drawn)
CONN, HEADER, Female, pitch: 2.54mm, 36POS; VALUE: HDRF36
footprint HDR_F_1X36 (Connector; Header; 36 Position)
pins: 1, 2, 3, 4, 5, 6, 7, 8, 9, 10, 11, 12, 13, 14, 15, 16, 17, 18, 19, 20, 21, 22, 23, 24, 25, 26, 27, 28, 29, 30, 31, 32, 33, 34, 35, 36

## HDR_F_1X37
designator J?, comment HDRF37  (value not drawn)
CONN, HEADER, Female, pitch: 2.54mm, 37POS; VALUE: HDRF37
footprint HDR_F_1X37 (Connector; Header; 37 Position)
pins: 1, 2, 3, 4, 5, 6, 7, 8, 9, 10, 11, 12, 13, 14, 15, 16, 17, 18, 19, 20, 21, 22, 23, 24, 25, 26, 27, 28, 29, 30, 31, 32, 33, 34, 35, 36, 37

## HDR_F_1X38
designator J?, comment HDRF38  (value not drawn)
CONN, HEADER, Female, pitch: 2.54mm, 38POS; VALUE: HDRF38
footprint HDR_F_1X38 (Connector; Header; 38 Position)
pins: 1, 2, 3, 4, 5, 6, 7, 8, 9, 10, 11, 12, 13, 14, 15, 16, 17, 18, 19, 20, 21, 22, 23, 24, 25, 26, 27, 28, 29, 30, 31, 32, 33, 34, 35, 36, 37, 38

## HDR_F_1X39
designator J?, comment HDRF39  (value not drawn)
CONN, HEADER, Female, pitch: 2.54mm, 39POS; VALUE: HDRF39
footprint HDR_F_1X39 (Connector; Header; 39 Position)
pins: 1, 2, 3, 4, 5, 6, 7, 8, 9, 10, 11, 12, 13, 14, 15, 16, 17, 18, 19, 20, 21, 22, 23, 24, 25, 26, 27, 28, 29, 30, 31, 32, 33, 34, 35, 36, 37, 38, 39

## HDR_F_1X40
designator J?, comment HDRF40  (value not drawn)
CONN, HEADER, Female, pitch: 2.54mm, 40POS; VALUE: HDRF40
footprint HDR_F_1X40 (Connector; Header; 40 Position)
pins: 1, 2, 3, 4, 5, 6, 7, 8, 9, 10, 11, 12, 13, 14, 15, 16, 17, 18, 19, 20, 21, 22, 23, 24, 25, 26, 27, 28, 29, 30, 31, 32, 33, 34, 35, 36, 37, 38, 39, 40

## HDR_F_2X2
designator J?, comment HDRF_2X2  (value not drawn)
CONN, HEADER, Female, pitch: 2.54mm, 4POS; MANF_P#: MANF_PART#; MANF: MANF; VALUE: HDRF_2X2
footprint HDR_F_2X2 (Connector; Header; 2x2 Position)
pins: 1, 2, 3, 4

## HDR_F_2X3
designator J?, comment HDRF_2X3  (value not drawn)
CONN, HEADER, Female, pitch: 2.54mm, 6POS; MANF_P#: MANF_PART#; MANF: MANF; VALUE: HDRF_2X3
footprint HDR_F_2X3 (Connector; Header; 3x2 Position)
pins: 1, 2, 3, 4, 5, 6

## HDR_F_2X4
designator J?, comment HDRF_2X4
CONN, HEADER, Female, pitch: 2.54mm, 8POS; MANF_P#: MANF_PART#; MANF: MANF; VALUE: HDRF_2X4
footprint HDR_F_2X4 (Connector; Header; 4x2 Position)
pins: 1, 2, 3, 4, 5, 6, 7, 8

## HDR_F_2X5
designator J?, comment HDRF_2X5  (value not drawn)
CONN, HEADER, Female, pitch: 2.54mm, 10POS; VALUE: HDRF_2X5
footprint HDR_F_2X5 (Connector; Header; 5x2 Position)
pins: 1, 2, 3, 4, 5, 6, 7, 8, 9, 10

## HDR_F_2X6
designator J?, comment HDRF_2X6  (value not drawn)
CONN, HEADER, Female, pitch: 2.54mm, 12POS; VALUE: HDRF_2X6
footprint HDR_F_2X6 (Connector; Header; 6x2 Position)
pins: 1, 2, 3, 4, 5, 6, 7, 8, 9, 10, 11, 12

## HDR_F_2X7
designator J?, comment HDRF_2X7  (value not drawn)
CONN, HEADER, Female, pitch: 2.54mm, 14POS; VALUE: HDRF_2X7
footprint HDR_F_2X7 (Connector; Header; 7x2 Position)
pins: 1, 2, 3, 4, 5, 6, 7, 8, 9, 10, 11, 12, 13, 14

## HDR_F_2X8
designator J?, comment HDRF_2X8  (value not drawn)
CONN, HEADER, Female, pitch: 2.54mm, 16POS; VALUE: HDRF_2X8
footprint HDR_F_2X8 (Connector; Header; 8x2 Position)
pins: 1, 2, 3, 4, 5, 6, 7, 8, 9, 10, 11, 12, 13, 14, 15, 16

## HDR_F_2X9
designator J?, comment HDRF_2X9  (value not drawn)
CONN, HEADER, Female, pitch: 2.54mm, 18POS; VALUE: HDRF_2X9
footprint HDR_F_2X9 (Connector; Header; 9x2 Position)
pins: 1, 2, 3, 4, 5, 6, 7, 8, 9, 10, 11, 12, 13, 14, 15, 16, 17, 18

## HDR_F_2X10
designator J?, comment HDRF_2X10  (value not drawn)
CONN, HEADER, Female, pitch: 2.54mm, 20POS; VALUE: HDRF_2X10
footprint HDR_F_2X10 (Connector; Header; 10x2 Position)
pins: 1, 2, 3, 4, 5, 6, 7, 8, 9, 10, 11, 12, 13, 14, 15, 16, 17, 18, 19, 20

## HDR_F_2X11
designator J?, comment HDRF_2X11  (value not drawn)
CONN, HEADER, Female, pitch: 2.54mm, 22POS; VALUE: HDRF_2X11
footprint HDR_F_2X11 (Connector; Header; 11x2 Position)
pins: 1, 2, 3, 4, 5, 6, 7, 8, 9, 10, 11, 12, 13, 14, 15, 16, 17, 18, 19, 20, 21, 22

## HDR_F_2X12
designator J?, comment HDRF_2X12  (value not drawn)
CONN, HEADER, Female, pitch: 2.54mm, 24POS; VALUE: HDRF_2X12
footprint HDR_F_2X12 (Connector; Header; 12x2 Position)
pins: 1, 2, 3, 4, 5, 6, 7, 8, 9, 10, 11, 12, 13, 14, 15, 16, 17, 18, 19, 20, 21, 22, 23, 24

## HDR_F_2X13
designator J?, comment HDRF_2X13  (value not drawn)
CONN, HEADER, Female, pitch: 2.54mm, 26POS; VALUE: HDRF_2X13
footprint HDR_F_2X13 (Connector; Header; 13x2 Position)
pins: 1, 2, 3, 4, 5, 6, 7, 8, 9, 10, 11, 12, 13, 14, 15, 16, 17, 18, 19, 20, 21, 22, 23, 24, 25, 26

## HDR_F_2X14
designator J?, comment HDRF_2X14  (value not drawn)
CONN, HEADER, Female, pitch: 2.54mm, 28POS; VALUE: HDRF_2X14
footprint HDR_F_2X14 (Connector; Header; 14x2 Position)
pins: 1, 2, 3, 4, 5, 6, 7, 8, 9, 10, 11, 12, 13, 14, 15, 16, 17, 18, 19, 20, 21, 22, 23, 24, 25, 26, 27, 28

## HDR_F_2X15
designator J?, comment HDRF_2X15  (value not drawn)
CONN, HEADER, Female, pitch: 2.54mm, 30POS; VALUE: HDRF_2X15
footprint HDR_F_2X15 (Connector; Header; 15x2 Position)
pins: 1, 2, 3, 4, 5, 6, 7, 8, 9, 10, 11, 12, 13, 14, 15, 16, 17, 18, 19, 20, 21, 22, 23, 24, 25, 26, 27, 28, 29, 30

## HDR_F_2X16
designator J?, comment HDRF_2X16  (value not drawn)
CONN, HEADER, Female, pitch: 2.54mm, 32POS; VALUE: HDRF_2X16
footprint HDR_F_2X16 (Connector; Header; 16x2 Position)
pins: 1, 2, 3, 4, 5, 6, 7, 8, 9, 10, 11, 12, 13, 14, 15, 16, 17, 18, 19, 20, 21, 22, 23, 24, 25, 26, 27, 28, 29, 30, 31, 32

## HDR_F_2X17
designator J?, comment HDRF_2X17  (value not drawn)
CONN, HEADER, Female, pitch: 2.54mm, 34POS; VALUE: HDRF_2X17
footprint HDR_F_2X17 (Connector; Header; 17x2 Position)
pins: 1, 2, 3, 4, 5, 6, 7, 8, 9, 10, 11, 12, 13, 14, 15, 16, 17, 18, 19, 20, 21, 22, 23, 24, 25, 26, 27, 28, 29, 30, 31, 32, 33, 34

## HDR_F_2X18
designator J?, comment HDRF_2X18  (value not drawn)
CONN, HEADER, Female, pitch: 2.54mm, 36POS; VALUE: HDRF_2X18
footprint HDR_F_2X18 (Connector; Header; 18x2 Position)
pins: 1, 2, 3, 4, 5, 6, 7, 8, 9, 10, 11, 12, 13, 14, 15, 16, 17, 18, 19, 20, 21, 22, 23, 24, 25, 26, 27, 28, 29, 30, 31, 32, 33, 34, 35, 36

## HDR_F_2X19
designator J?, comment HDRF_2X19  (value not drawn)
CONN, HEADER, Female, pitch: 2.54mm, 38POS; VALUE: HDRF_2X19
footprint HDR_F_2X19 (Connector; Header; 19x2 Position)
pins: 1, 2, 3, 4, 5, 6, 7, 8, 9, 10, 11, 12, 13, 14, 15, 16, 17, 18, 19, 20, 21, 22, 23, 24, 25, 26, 27, 28, 29, 30, 31, 32, 33, 34, 35, 36, 37, 38

## HDR_F_2X20
designator J?, comment HDRF_2X20  (value not drawn)
CONN, HEADER, Female, pitch: 2.54mm, 40POS; VALUE: HDRF_2X20
footprint HDR_F_2X20 (Connector; Header; 20x2 Position)
pins: 1, 2, 3, 4, 5, 6, 7, 8, 9, 10, 11, 12, 13, 14, 15, 16, 17, 18, 19, 20, 21, 22, 23, 24, 25, 26, 27, 28, 29, 30, 31, 32, 33, 34, 35, 36, 37, 38, 39, 40

## HDR_F_2X21
designator J?, comment HDRF_2X21  (value not drawn)
CONN, HEADER, Female, pitch: 2.54mm; VALUE: HDRF_2X21
footprint HDR_F_2X21 (Footprint not found)
pins: 1, 2, 3, 4, 5, 6, 7, 8, 9, 10, 11, 12, 13, 14, 15, 16, 17, 18, 19, 20, 21, 22, 23, 24, 25, 26, 27, 28, 29, 30, 31, 32, 33, 34, 35, 36, 37, 38, 39, 40, 41, 42

## HDR_F_2X22
designator J?, comment HDRF_2X22  (value not drawn)
CONN, HEADER, Female, pitch: 2.54mm; VALUE: HDRF_2X22
footprint HDR_F_2X22 (Footprint not found)
pins: 1, 2, 3, 4, 5, 6, 7, 8, 9, 10, 11, 12, 13, 14, 15, 16, 17, 18, 19, 20, 21, 22, 23, 24, 25, 26, 27, 28, 29, 30, 31, 32, 33, 34, 35, 36, 37, 38, 39, 40, 41, 42, 43, 44

## HDR_F_2X23
designator J?, comment HDRF_2X23  (value not drawn)
CONN, HEADER, Female, pitch: 2.54mm; VALUE: HDRF_2X23
footprint HDR_F_2X23 (Footprint not found)
pins: 1, 2, 3, 4, 5, 6, 7, 8, 9, 10, 11, 12, 13, 14, 15, 16, 17, 18, 19, 20, 21, 22, 23, 24, 25, 26, 27, 28, 29, 30, 31, 32, 33, 34, 35, 36, 37, 38, 39, 40, 41, 42, 43, 44, 45, 46

## HDR_F_2X24
designator J?, comment HDRF_2X24  (value not drawn)
CONN, HEADER, Female, pitch: 2.54mm; VALUE: HDRF_2X24
footprint HDR_F_2X24 (Footprint not found)
pins: 1, 2, 3, 4, 5, 6, 7, 8, 9, 10, 11, 12, 13, 14, 15, 16, 17, 18, 19, 20, 21, 22, 23, 24, 25, 26, 27, 28, 29, 30, 31, 32, 33, 34, 35, 36, 37, 38, 39, 40, 41, 42, 43, 44, 45, 46, 47, 48

## HDR_F_2X25
designator J?, comment HDRF_2X25  (value not drawn)
CONN, HEADER, Female, pitch: 2.54mm; VALUE: HDRF_2X25
footprint HDR_F_2X25 (Connector; Header; 20x2 Position)
pins: 1, 2, 3, 4, 5, 6, 7, 8, 9, 10, 11, 12, 13, 14, 15, 16, 17, 18, 19, 20, 21, 22, 23, 24, 25, 26, 27, 28, 29, 30, 31, 32, 33, 34, 35, 36, 37, 38, 39, 40, 41, 42, 43, 44, 45, 46, 47, 48, 49, 50

## HDR_F_2X26
designator J?, comment HDRF_2X26  (value not drawn)
CONN, HEADER, Female, pitch: 2.54mm; VALUE: HDRF_2X26
footprint HDR_F_2X26 (Footprint not found)
pins: 1, 2, 3, 4, 5, 6, 7, 8, 9, 10, 11, 12, 13, 14, 15, 16, 17, 18, 19, 20, 21, 22, 23, 24, 25, 26, 27, 28, 29, 30, 31, 32, 33, 34, 35, 36, 37, 38, 39, 40, 41, 42, 43, 44, 45, 46, 47, 48, 49, 50, 51, 52

## HDR_F_2X27
designator J?, comment HDRF_2X27  (value not drawn)
CONN, HEADER, Female, pitch: 2.54mm; VALUE: HDRF_2X27
footprint HDR_F_2X27 (Footprint not found)
pins: 1, 2, 3, 4, 5, 6, 7, 8, 9, 10, 11, 12, 13, 14, 15, 16, 17, 18, 19, 20, 21, 22, 23, 24, 25, 26, 27, 28, 29, 30, 31, 32, 33, 34, 35, 36, 37, 38, 39, 40, 41, 42, 43, 44, 45, 46, 47, 48, 49, 50, 51, 52, 53, 54

## HDR_F_2X28
designator J?, comment HDRF_2X28  (value not drawn)
CONN, HEADER, Female, pitch: 2.54mm; VALUE: HDRF_2X28
footprint HDR_F_2X28 (Footprint not found)
pins: 1, 2, 3, 4, 5, 6, 7, 8, 9, 10, 11, 12, 13, 14, 15, 16, 17, 18, 19, 20, 21, 22, 23, 24, 25, 26, 27, 28, 29, 30, 31, 32, 33, 34, 35, 36, 37, 38, 39, 40, 41, 42, 43, 44, 45, 46, 47, 48, 49, 50, 51, 52, 53, 54, 55, 56

## HDR_F_2X29
designator J?, comment HDRF_2X29  (value not drawn)
CONN, HEADER, Female, pitch: 2.54mm; VALUE: HDRF_2X29
footprint HDR_F_2X29 (Footprint not found)
pins: 1, 2, 3, 4, 5, 6, 7, 8, 9, 10, 11, 12, 13, 14, 15, 16, 17, 18, 19, 20, 21, 22, 23, 24, 25, 26, 27, 28, 29, 30, 31, 32, 33, 34, 35, 36, 37, 38, 39, 40, 41, 42, 43, 44, 45, 46, 47, 48, 49, 50, 51, 52, 53, 54, 55, 56, 57, 58

## HDR_F_2X30
designator J?, comment HDRF_2X30  (value not drawn)
CONN, HEADER, Female, pitch: 2.54mm; VALUE: HDRF_2X30
footprint HDR_F_2X30 (Footprint not found)
pins: 1, 2, 3, 4, 5, 6, 7, 8, 9, 10, 11, 12, 13, 14, 15, 16, 17, 18, 19, 20, 21, 22, 23, 24, 25, 26, 27, 28, 29, 30, 31, 32, 33, 34, 35, 36, 37, 38, 39, 40, 41, 42, 43, 44, 45, 46, 47, 48, 49, 50, 51, 52, 53, 54, 55, 56, 57, 58, 59, 60

## HDR_F_2X31
designator J?, comment HDRF_2X31  (value not drawn)
CONN, HEADER, Female, pitch: 2.54mm; VALUE: HDRF_2X31
footprint HDR_F_2X31 (Footprint not found)
pins: 1, 2, 3, 4, 5, 6, 7, 8, 9, 10, 11, 12, 13, 14, 15, 16, 17, 18, 19, 20, 21, 22, 23, 24, 25, 26, 27, 28, 29, 30, 31, 32, 33, 34, 35, 36, 37, 38, 39, 40, 41, 42, 43, 44, 45, 46, 47, 48, 49, 50, 51, 52, 53, 54, 55, 56, 57, 58, 59, 60, 61, 62

## HDR_F_2X32
designator J?, comment HDRF_2X32  (value not drawn)
CONN, HEADER, Female, pitch: 2.54mm, 64POS; VALUE: HDRF_2X32
footprint HDR_F_2X32 (Footprint not found)
pins: 1, 2, 3, 4, 5, 6, 7, 8, 9, 10, 11, 12, 13, 14, 15, 16, 17, 18, 19, 20, 21, 22, 23, 24, 25, 26, 27, 28, 29, 30, 31, 32, 33, 34, 35, 36, 37, 38, 39, 40, 41, 42, 43, 44, 45, 46, 47, 48, 49, 50, 51, 52, 53, 54, 55, 56, 57, 58, 59, 60, 61, 62, 63, 64

## HDR_F_2X33
designator J?, comment HDRF_2X33  (value not drawn)
CONN, HEADER, Female, pitch: 2.54mm, 66POS; VALUE: HDRF_2X33
footprint HDR_F_2X33 (Male Header 2X32 with 2.54 mm Pitch)
pins: 1, 2, 3, 4, 5, 6, 7, 8, 9, 10, 11, 12, 13, 14, 15, 16, 17, 18, 19, 20, 21, 22, 23, 24, 25, 26, 27, 28, 29, 30, 31, 32, 33, 34, 35, 36, 37, 38, 39, 40, 41, 42, 43, 44, 45, 46, 47, 48, 49, 50, 51, 52, 53, 54, 55, 56, 57, 58, 59, 60, 61, 62, 63, 64, 65, 66

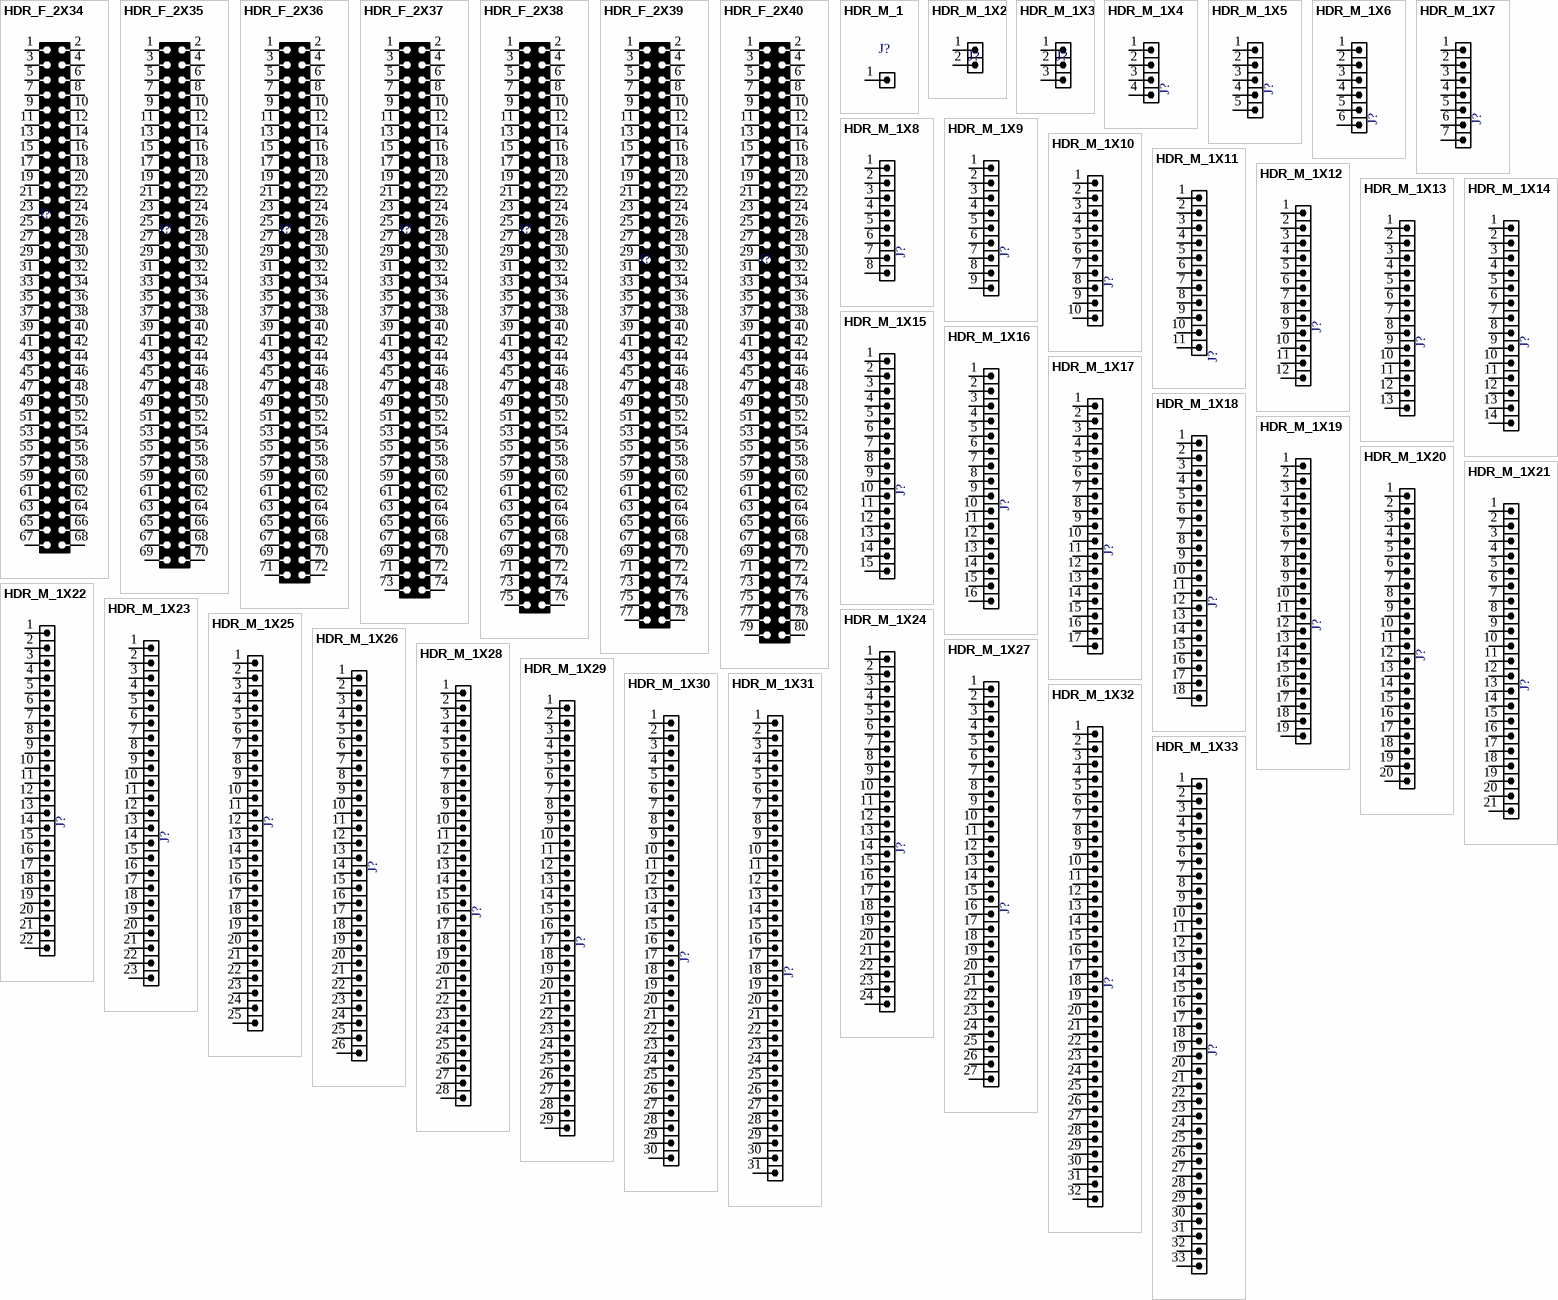
[diagram p8: symbols HDR_F_2X34 to HDR_M_1X33]

## HDR_F_2X34
designator J?  (value not drawn)
CONN, HEADER, female, pitch: 2.54mm, 68POS; VALUE: HDR_F_2X34
footprint HDR_F_2X34 (Footprint not found)
pins: 1, 2, 3, 4, 5, 6, 7, 8, 9, 10, 11, 12, 13, 14, 15, 16, 17, 18, 19, 20, 21, 22, 23, 24, 25, 26, 27, 28, 29, 30, 31, 32, 33, 34, 35, 36, 37, 38, 39, 40, 41, 42, 43, 44, 45, 46, 47, 48, 49, 50, 51, 52, 53, 54, 55, 56, 57, 58, 59, 60, 61, 62, 63, 64, 65, 66, 67, 68

## HDR_F_2X35
designator J?  (value not drawn)
CONN, HEADER, female, pitch: 2.54mm, 70POS; VALUE: HDR_F_2X35
footprint HDR_F_2X35 (Footprint not found)
pins: 1, 2, 3, 4, 5, 6, 7, 8, 9, 10, 11, 12, 13, 14, 15, 16, 17, 18, 19, 20, 21, 22, 23, 24, 25, 26, 27, 28, 29, 30, 31, 32, 33, 34, 35, 36, 37, 38, 39, 40, 41, 42, 43, 44, 45, 46, 47, 48, 49, 50, 51, 52, 53, 54, 55, 56, 57, 58, 59, 60, 61, 62, 63, 64, 65, 66, 67, 68, 69, 70

## HDR_F_2X36
designator J?  (value not drawn)
CONN, HEADER, female, pitch: 2.54mm, 72POS; VALUE: HDR_F_2X36
footprint HDR_F_2X36 (Footprint not found)
pins: 1, 2, 3, 4, 5, 6, 7, 8, 9, 10, 11, 12, 13, 14, 15, 16, 17, 18, 19, 20, 21, 22, 23, 24, 25, 26, 27, 28, 29, 30, 31, 32, 33, 34, 35, 36, 37, 38, 39, 40, 41, 42, 43, 44, 45, 46, 47, 48, 49, 50, 51, 52, 53, 54, 55, 56, 57, 58, 59, 60, 61, 62, 63, 64, 65, 66, 67, 68, 69, 70, 71, 72

## HDR_F_2X37
designator J?  (value not drawn)
CONN, HEADER, female, pitch: 2.54mm,; VALUE: HDR_F_2X37
footprint HDR_F_2X37 (Footprint not found)
pins: 1, 2, 3, 4, 5, 6, 7, 8, 9, 10, 11, 12, 13, 14, 15, 16, 17, 18, 19, 20, 21, 22, 23, 24, 25, 26, 27, 28, 29, 30, 31, 32, 33, 34, 35, 36, 37, 38, 39, 40, 41, 42, 43, 44, 45, 46, 47, 48, 49, 50, 51, 52, 53, 54, 55, 56, 57, 58, 59, 60, 61, 62, 63, 64, 65, 66, 67, 68, 69, 70, 71, 72, 73, 74

## HDR_F_2X38
designator J?  (value not drawn)
CONN, HEADER, female, pitch: 2.54mm, 76POS; VALUE: HDR_F_2X38
footprint HDR_F_2X38 (Footprint not found)
pins: 1, 2, 3, 4, 5, 6, 7, 8, 9, 10, 11, 12, 13, 14, 15, 16, 17, 18, 19, 20, 21, 22, 23, 24, 25, 26, 27, 28, 29, 30, 31, 32, 33, 34, 35, 36, 37, 38, 39, 40, 41, 42, 43, 44, 45, 46, 47, 48, 49, 50, 51, 52, 53, 54, 55, 56, 57, 58, 59, 60, 61, 62, 63, 64, 65, 66, 67, 68, 69, 70, 71, 72, 73, 74, 75, 76

## HDR_F_2X39
designator J?  (value not drawn)
CONN, HEADER, female, pitch: 2.54mm,; VALUE: HDR_F_2X39
footprint HDR_F_2X39 (Footprint not found)
pins: 1, 2, 3, 4, 5, 6, 7, 8, 9, 10, 11, 12, 13, 14, 15, 16, 17, 18, 19, 20, 21, 22, 23, 24, 25, 26, 27, 28, 29, 30, 31, 32, 33, 34, 35, 36, 37, 38, 39, 40, 41, 42, 43, 44, 45, 46, 47, 48, 49, 50, 51, 52, 53, 54, 55, 56, 57, 58, 59, 60, 61, 62, 63, 64, 65, 66, 67, 68, 69, 70, 71, 72, 73, 74, 75, 76, 77, 78

## HDR_F_2X40
designator J?  (value not drawn)
CONN, HEADER, female, pitch: 2.54mm, 80POS; VALUE: HDR_F_2X40
footprint HDR_F_2X40 (Footprint not found)
pins: 1, 2, 3, 4, 5, 6, 7, 8, 9, 10, 11, 12, 13, 14, 15, 16, 17, 18, 19, 20, 21, 22, 23, 24, 25, 26, 27, 28, 29, 30, 31, 32, 33, 34, 35, 36, 37, 38, 39, 40, 41, 42, 43, 44, 45, 46, 47, 48, 49, 50, 51, 52, 53, 54, 55, 56, 57, 58, 59, 60, 61, 62, 63, 64, 65, 66, 67, 68, 69, 70, 71, 72, 73, 74, 75, 76, 77, 78, 79, 80

## HDR_M_1
designator J?, comment HDRM1  (value not drawn)
CONN, HEADER, Male, pitch: 2.54mm, 1POS; VALUE: HDRM1
footprint HDR_M_1 (Footprint not found)
pins: 1

## HDR_M_1X2
designator J?, comment HDRM2  (value not drawn)
CONN, HEADER, Male, pitch: 2.54mm, 2POS; VALUE: HDRM2
footprint HDR_M_1X2
pins: 1, 2

## HDR_M_1X3
designator J?, comment HDRM3  (value not drawn)
CONN, HEADER, Male, pitch: 2.54mm, 3POS; VALUE: HDRM3
footprint HDR_M_1X3
pins: 1, 2, 3

## HDR_M_1X4
designator J?, comment HDR1X4  (value not drawn)
CONN, HEADER, Male, pitch: 2.54mm, 4POS; VALUE: HDRM4
footprint HDR_M_1X4
pins: 1, 2, 3, 4

## HDR_M_1X5
designator J?, comment HDR1X5  (value not drawn)
CONN, HEADER, Male, pitch: 2.54mm, 5POS; VALUE: HDRM5
footprint HDR_M_1X5
pins: 1, 2, 3, 4, 5

## HDR_M_1X6
designator J?, comment HDR1X6  (value not drawn)
CONN, HEADER, RightAngle, Male, pitch: 2.54mm, 6POS; VALUE: HDRM6
footprint HDR_M_1*6
pins: 1, 2, 3, 4, 5, 6

## HDR_M_1X7
designator J?, comment HDR1X7  (value not drawn)
CONN, HEADER, Male, pitch: 2.54mm, 7POS; VALUE: HDRM7
footprint HDR_M_1X7
pins: 1, 2, 3, 4, 5, 6, 7

## HDR_M_1X8
designator J?, comment HDR1X8  (value not drawn)
CONN, HEADER, Male, pitch: 2.54mm, 8POS; VALUE: HDRM8
footprint HDR_M_1X8
pins: 1, 2, 3, 4, 5, 6, 7, 8

## HDR_M_1X9
designator J?, comment HDR1X9  (value not drawn)
CONN, HEADER, Male, pitch: 2.54mm, 9POS; VALUE: HDRM9
footprint HDR_M_1X9
pins: 1, 2, 3, 4, 5, 6, 7, 8, 9

## HDR_M_1X10
designator J?, comment HDR1X10  (value not drawn)
CONN, HEADER, Male, pitch: 2.54mm, 10POS; VALUE: HDRM10
footprint HDR_M_1X10
pins: 1, 2, 3, 4, 5, 6, 7, 8, 9, 10

## HDR_M_1X11
designator J?, comment HDR1X11  (value not drawn)
CONN, HEADER, Male, pitch: 2.54mm, 11POS; VALUE: HDRM11
footprint HDR_M_1X11
pins: 1, 2, 3, 4, 5, 6, 7, 8, 9, 10, 11

## HDR_M_1X12
designator J?, comment HDR1X12  (value not drawn)
CONN, HEADER, Male, pitch: 2.54mm, 12POS; VALUE: HDRM12
footprint HDR_M_1X12
pins: 1, 2, 3, 4, 5, 6, 7, 8, 9, 10, 11, 12

## HDR_M_1X13
designator J?, comment HDR1X13  (value not drawn)
CONN, HEADER, Male, pitch: 2.54mm, 13POS; VALUE: HDRM13
footprint HDR_M_1X13
pins: 1, 2, 3, 4, 5, 6, 7, 8, 9, 10, 11, 12, 13

## HDR_M_1X14
designator J?, comment HDR1X14  (value not drawn)
CONN, HEADER, Male, pitch: 2.54mm, 14POS; VALUE: HDRM14
footprint HDR_M_1X14
pins: 1, 2, 3, 4, 5, 6, 7, 8, 9, 10, 11, 12, 13, 14

## HDR_M_1X15
designator J?, comment HDR1X15  (value not drawn)
CONN, HEADER, Male, pitch: 2.54mm, 15POS; VALUE: HDRM15
footprint HDR_M_1X15
pins: 1, 2, 3, 4, 5, 6, 7, 8, 9, 10, 11, 12, 13, 14, 15

## HDR_M_1X16
designator J?, comment HDR1X16  (value not drawn)
CONN, HEADER, Male, pitch: 2.54mm, 16POS; VALUE: HDRM16
footprint HDR_M_1X16
pins: 1, 2, 3, 4, 5, 6, 7, 8, 9, 10, 11, 12, 13, 14, 15, 16

## HDR_M_1X17
designator J?, comment HDR1X17  (value not drawn)
CONN, HEADER, Male, pitch: 2.54mm, 17POS; VALUE: HDRM17
footprint HDR_M_1X17
pins: 1, 2, 3, 4, 5, 6, 7, 8, 9, 10, 11, 12, 13, 14, 15, 16, 17

## HDR_M_1X18
designator J?, comment HDR1X18  (value not drawn)
CONN, HEADER, Male, pitch: 2.54mm, 18POS; VALUE: HDRM18
footprint HDR_M_1X18
pins: 1, 2, 3, 4, 5, 6, 7, 8, 9, 10, 11, 12, 13, 14, 15, 16, 17, 18

## HDR_M_1X19
designator J?, comment HDR1X19  (value not drawn)
CONN, HEADER, Male, pitch: 2.54mm, 19POS; VALUE: HDRM19
footprint HDR_M_1X19
pins: 1, 2, 3, 4, 5, 6, 7, 8, 9, 10, 11, 12, 13, 14, 15, 16, 17, 18, 19

## HDR_M_1X20
designator J?, comment HDR1X20  (value not drawn)
CONN, HEADER, Male, pitch: 2.54mm, 20POS; VALUE: HDRM20
footprint HDR_M_1X20
pins: 1, 2, 3, 4, 5, 6, 7, 8, 9, 10, 11, 12, 13, 14, 15, 16, 17, 18, 19, 20

## HDR_M_1X21
designator J?, comment HDRF21  (value not drawn)
CONN, HEADER, Male, pitch: 2.54mm, 21POS; VALUE: HDRF21
footprint HDR_M_1X21 (Connector; Header; 21 Position)
pins: 1, 2, 3, 4, 5, 6, 7, 8, 9, 10, 11, 12, 13, 14, 15, 16, 17, 18, 19, 20, 21

## HDR_M_1X22
designator J?, comment HDRF22  (value not drawn)
CONN, HEADER, Male, pitch: 2.54mm, 22POS; VALUE: HDRF22
footprint HDR_M_1X22 (Connector; Header; 22 Position)
pins: 1, 2, 3, 4, 5, 6, 7, 8, 9, 10, 11, 12, 13, 14, 15, 16, 17, 18, 19, 20, 21, 22

## HDR_M_1X23
designator J?, comment HDRF23  (value not drawn)
CONN, HEADER, Male, pitch: 2.54mm, 23POS; VALUE: HDRF23
footprint HDR_M_1X23 (Connector; Header; 23 Position)
pins: 1, 2, 3, 4, 5, 6, 7, 8, 9, 10, 11, 12, 13, 14, 15, 16, 17, 18, 19, 20, 21, 22, 23